# Altium integrated library Lattice ECP FPGA.IntLib: 182 symbols (part 1 of 2)
Pins are listed as number, name and electrical type; pins without a type are passive.

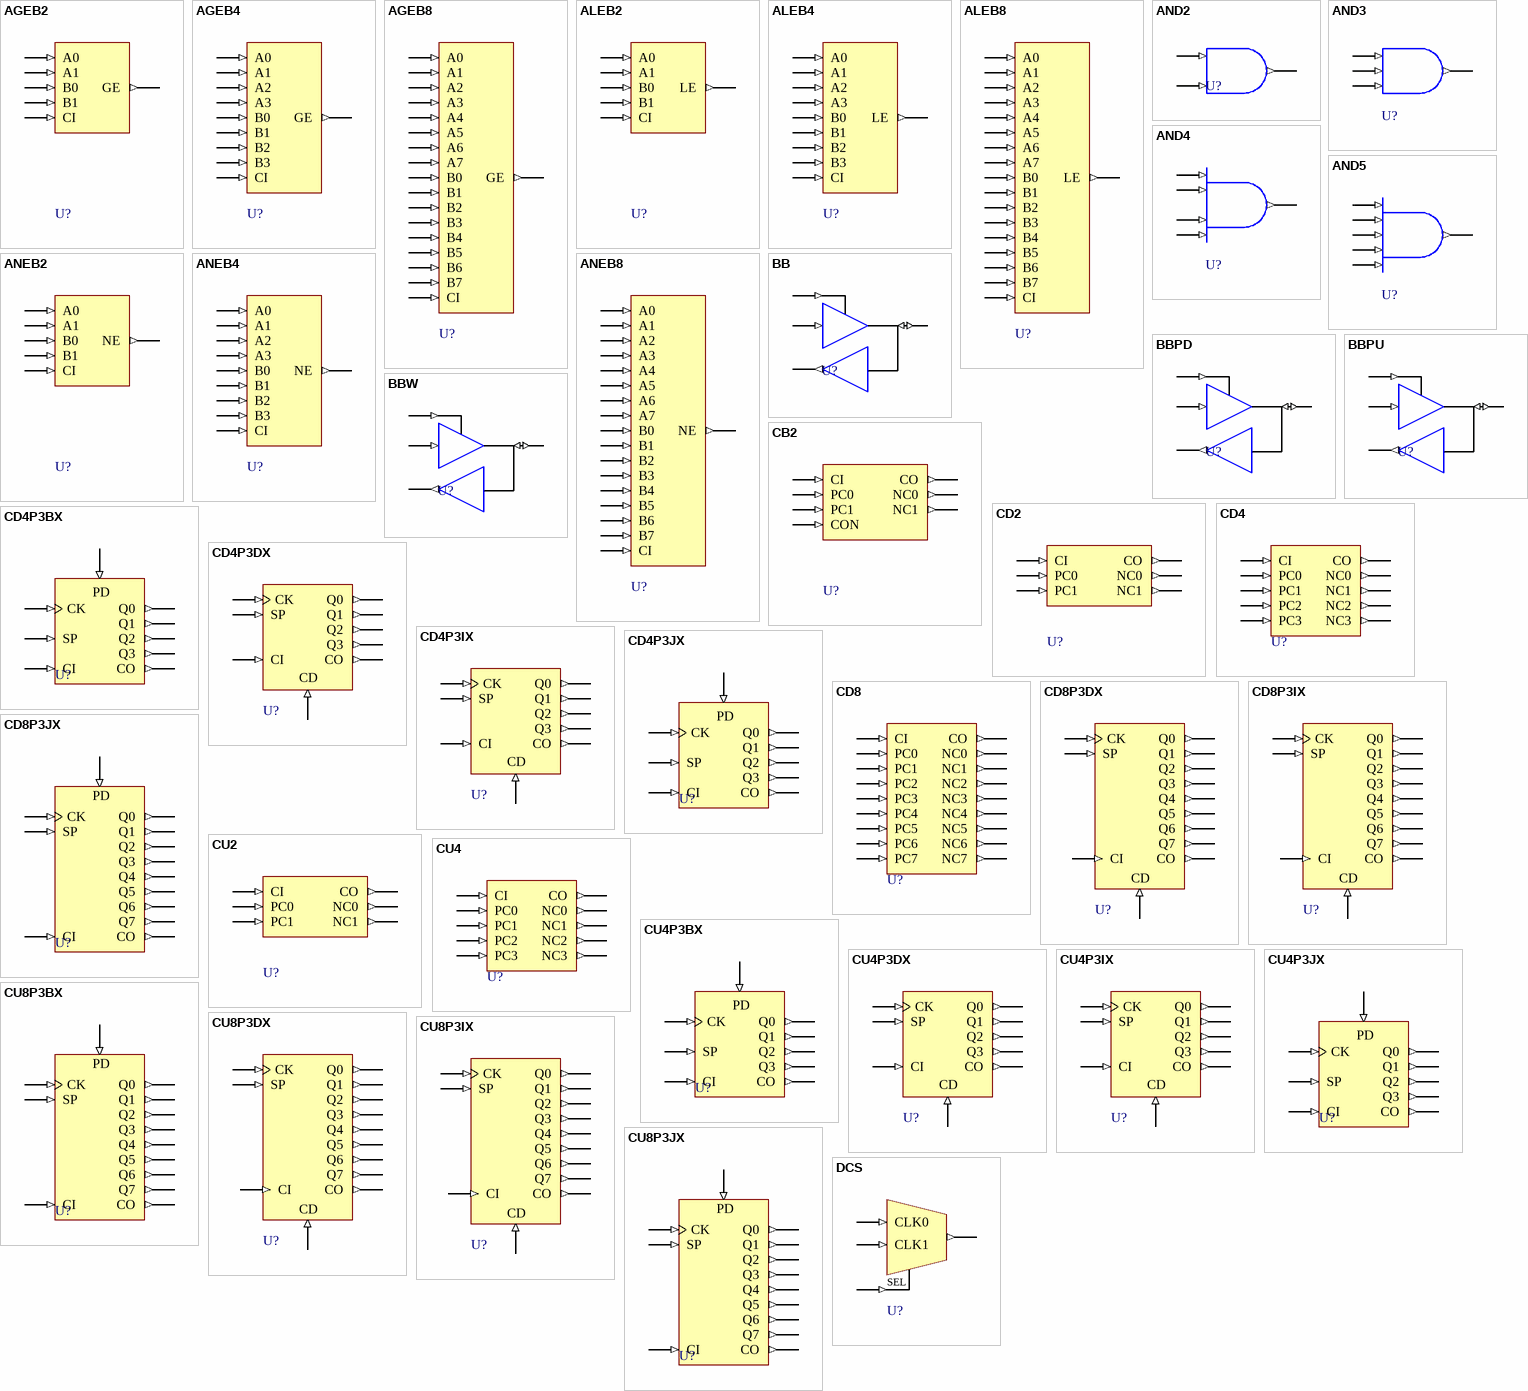
[diagram p0: symbols AGEB2 to DCS]

## AGEB2
designator U?
"A" Greater Than Or Equal To "B" (2 Bit); FPGAVendor: Lattice; Published: 15-Jun-2005; Publisher: Altium Limited; HelpURL: http://www.latticesemi.com/lit/docs/manuals/library.pdf
pins: A0 (in), A1 (in), B0 (in), B1 (in), CI (in), GE (out)

## AGEB4
designator U?
"A" Greater Than Or Equal To "B" (4 Bit); FPGAVendor: Lattice; Published: 15-Jun-2005; Publisher: Altium Limited; HelpURL: http://www.latticesemi.com/lit/docs/manuals/library.pdf
pins: A0 (in), A1 (in), A2 (in), A3 (in), B0 (in), B1 (in), B2 (in), B3 (in), CI (in), GE (out)

## AGEB8
designator U?
"A" Greater Than Or Equal To "B" (8 Bit); FPGAVendor: Lattice; Published: 15-Jun-2005; Publisher: Altium Limited; HelpURL: http://www.latticesemi.com/lit/docs/manuals/library.pdf
pins: A0 (in), A1 (in), A2 (in), A3 (in), A4 (in), A5 (in), A6 (in), A7 (in), B0 (in), B1 (in), B2 (in), B3 (in), B4 (in), B5 (in), B6 (in), B7 (in), CI (in), GE (out)

## ALEB2
designator U?
"A” Less Than Or Equal To "B” (2 bit); FPGAVendor: Lattice; Published: 15-Jun-2005; Publisher: Altium Limited; HelpURL: http://www.latticesemi.com/lit/docs/manuals/library.pdf
pins: A0 (in), A1 (in), B0 (in), B1 (in), CI (in), LE (out)

## ALEB4
designator U?
"A” Less Than Or Equal To "B” (4 bit); FPGAVendor: Lattice; Published: 15-Jun-2005; Publisher: Altium Limited; HelpURL: http://www.latticesemi.com/lit/docs/manuals/library.pdf
pins: A0 (in), A1 (in), A2 (in), A3 (in), B0 (in), B1 (in), B2 (in), B3 (in), CI (in), LE (out)

## ALEB8
designator U?
"A” Less Than Or Equal To "B” (8 bit); FPGAVendor: Lattice; Published: 15-Jun-2005; Publisher: Altium Limited; HelpURL: http://www.latticesemi.com/lit/docs/manuals/library.pdf
pins: A0 (in), A1 (in), A2 (in), A3 (in), A4 (in), A5 (in), A6 (in), A7 (in), B0 (in), B1 (in), B2 (in), B3 (in), B4 (in), B5 (in), B6 (in), B7 (in), CI (in), LE (out)

## AND2
designator U?
2 Input AND Gate; FPGAVendor: Lattice; Published: 15-Jun-2005; Publisher: Altium Limited; HelpURL: http://www.latticesemi.com/lit/docs/manuals/library.pdf
pins: A (in), B (in), Z (out)

## AND3
designator U?
3 Input AND Gate; FPGAVendor: Lattice; Published: 15-Jun-2005; Publisher: Altium Limited; HelpURL: http://www.latticesemi.com/lit/docs/manuals/library.pdf
pins: A (in), B (in), C (in), Z (out)

## AND4
designator U?
4 Input AND Gate; FPGAVendor: Lattice; Published: 15-Jun-2005; Publisher: Altium Limited; HelpURL: http://www.latticesemi.com/lit/docs/manuals/library.pdf
pins: A (in), B (in), C (in), D (in), Z (out)

## AND5
designator U?
5 Input AND Gate; FPGAVendor: Lattice; Published: 15-Jun-2005; Publisher: Altium Limited; HelpURL: http://www.latticesemi.com/lit/docs/manuals/library.pdf
pins: A (in), B (in), C (in), D (in), E (in), Z (out)

## ANEB2
designator U?
"A” Not Equal To "B” (2 bit); FPGAVendor: Lattice; Published: 15-Jun-2005; Publisher: Altium Limited; HelpURL: http://www.latticesemi.com/lit/docs/manuals/library.pdf
pins: A0 (in), A1 (in), B0 (in), B1 (in), CI (in), NE (out)

## ANEB4
designator U?
"A” Not Equal To "B” (4 bit); FPGAVendor: Lattice; Published: 15-Jun-2005; Publisher: Altium Limited; HelpURL: http://www.latticesemi.com/lit/docs/manuals/library.pdf
pins: A0 (in), A1 (in), A2 (in), A3 (in), B0 (in), B1 (in), B2 (in), B3 (in), CI (in), NE (out)

## ANEB8
designator U?
"A” Not Equal To "B” (8 bit); FPGAVendor: Lattice; Published: 15-Jun-2005; Publisher: Altium Limited; HelpURL: http://www.latticesemi.com/lit/docs/manuals/library.pdf
pins: A0 (in), A1 (in), A2 (in), A3 (in), A4 (in), A5 (in), A6 (in), A7 (in), B0 (in), B1 (in), B2 (in), B3 (in), B4 (in), B5 (in), B6 (in), B7 (in), CI (in), NE (out)

## BB
designator U?
CMOS Input 6mA Sink 3mA Source Sinklim Output Buffer with Tristate – BiDirectional; FPGAVendor: Lattice; Published: 15-Jun-2005; Publisher: Altium Limited; HelpURL: http://www.latticesemi.com/lit/docs/manuals/library.pdf
pins: B (io), I (in), O (out), T (in)

## BBPD
designator U?
CMOS Input 6mA Sink 3mA Source Sinklim Output Buffer with Tristate and Pull-down – BiDirectional; FPGAVendor: Lattice; Published: 15-Jun-2005; Publisher: Altium Limited; HelpURL: http://www.latticesemi.com/lit/docs/manuals/library.pdf
pins: B (io), I (in), O (out), T (in)

## BBPU
designator U?
CMOS Input 6mA Sink 3mA Source Sinklim Output Buffer with Tristate and Pull-up – BiDirectional; FPGAVendor: Lattice; Published: 15-Jun-2005; Publisher: Altium Limited; HelpURL: http://www.latticesemi.com/lit/docs/manuals/library.pdf
pins: B (io), I (in), O (out), T (in)

## BBW
designator U?
CMOS Input 6mA Sink 3mA Source Sinklim Output Buffer with Tristate – BiDirectional in keepermode; FPGAVendor: Lattice; Published: 15-Jun-2005; Publisher: Altium Limited; HelpURL: http://www.latticesemi.com/lit/docs/manuals/library.pdf
pins: B (io), I (in), O (out), T (in)

## CB2
designator U?
LatticeXP based counter; Published: 15-Jun-2005; Publisher: Altium Limited; FPGAVendor: Lattice; HelpURL: http://www.latticesemi.com/lit/docs/manuals/library.pdf
pins: CI (in), CO (out), CON (in), NC0 (out), NC1 (out), PC0 (in), PC1 (in)

## CD2
designator U?
Combinational Logic for 2 Bit Down Counter using Look-Up Table; FPGAVendor: Lattice; Published: 15-Jun-2005; Publisher: Altium Limited; HelpURL: http://www.latticesemi.com/lit/docs/manuals/library.pdf
pins: CI (in), CO (out), NC0 (out), NC1 (out), PC0 (in), PC1 (in)

## CD4
designator U?
Combinational Logic for 4 Bit Down Counter using Look-Up Table; FPGAVendor: Lattice; Published: 15-Jun-2005; Publisher: Altium Limited; HelpURL: http://www.latticesemi.com/lit/docs/manuals/library.pdf
pins: CI (in), CO (out), NC0 (out), NC1 (out), NC2 (out), NC3 (out), PC0 (in), PC1 (in), PC2 (in), PC3 (in)

## CD4P3BX
designator U?
4 Bit Positive Edge Triggered Fast Down Counter with Positive Clock Enable and Positive Asynchronous Preset; FPGAVendor: Lattice; Published: 15-Jun-2005; Publisher: Altium Limited; HelpURL: http://www.latticesemi.com/lit/docs/manuals/library.pdf
pins: CI (in), CK (in), CO (out), PD (in), Q0 (out), Q1 (out), Q2 (out), Q3 (out), SP (in)

## CD4P3DX
designator U?
4 Bit Positive Edge Triggered Fast Down Counter with Positive Clock Enable and Positive Asynchronous Clear; FPGAVendor: Lattice; Published: 15-Jun-2005; Publisher: Altium Limited; HelpURL: http://www.latticesemi.com/lit/docs/manuals/library.pdf
pins: CD (in), CI (in), CK (in), CO (out), Q0 (out), Q1 (out), Q2 (out), Q3 (out), SP (in)

## CD4P3IX
designator U?
4 Bit Positive Edge Triggered Fast Down Counter with Positive Clock Enable and Positive Synchronous Clear; FPGAVendor: Lattice; Published: 15-Jun-2005; Publisher: Altium Limited; HelpURL: http://www.latticesemi.com/lit/docs/manuals/library.pdf
pins: CD (in), CI (in), CK (in), CO (out), Q0 (out), Q1 (out), Q2 (out), Q3 (out), SP (in)

## CD4P3JX
designator U?
4 Bit Positive Edge Triggered Fast Down Counter with Positive Clock Enable and Positive Synchronous Preset; FPGAVendor: Lattice; Published: 15-Jun-2005; Publisher: Altium Limited; HelpURL: http://www.latticesemi.com/lit/docs/manuals/library.pdf
pins: CI (in), CK (in), CO (out), PD (in), Q0 (out), Q1 (out), Q2 (out), Q3 (out), SP (in)

## CD8
designator U?
8 Bit Positive Edge Triggered Fast Down Counter with Positive Clock Enable and Positive Asynchronous Preset; FPGAVendor: Lattice; Published: 15-Jun-2005; Publisher: Altium Limited; HelpURL: http://www.latticesemi.com/lit/docs/manuals/library.pdf
pins: CI (in), CO (out), NC0 (out), NC1 (out), NC2 (out), NC3 (out), NC4 (out), NC5 (out), NC6 (out), NC7 (out), PC0 (in), PC1 (in), PC2 (in), PC3 (in), PC4 (in), PC5 (in), PC6 (in), PC7 (in)

## CD8P3DX
designator U?
8 Bit Positive Edge Triggered Fast Down Counter with Positive Clock Enable and Positive Asynchronous Clear; FPGAVendor: Lattice; Published: 15-Jun-2005; Publisher: Altium Limited; HelpURL: http://www.latticesemi.com/lit/docs/manuals/library.pdf
pins: CD (in), CI (in), CK (in), CO (out), Q0 (out), Q1 (out), Q2 (out), Q3 (out), Q4 (out), Q5 (out), Q6 (out), Q7 (out), SP (in)

## CD8P3IX
designator U?
8 Bit Positive Edge Triggered Fast Down Counter with Positive Clock Enable and Positive Synchronous Clear; FPGAVendor: Lattice; Published: 15-Jun-2005; Publisher: Altium Limited; HelpURL: http://www.latticesemi.com/lit/docs/manuals/library.pdf
pins: CD (in), CI (in), CK (in), CO (out), Q0 (out), Q1 (out), Q2 (out), Q3 (out), Q4 (out), Q5 (out), Q6 (out), Q7 (out), SP (in)

## CD8P3JX
designator U?
8 Bit Positive Edge Triggered Fast Down Counter with Positive Clock Enable and Positive Synchronous Preset; FPGAVendor: Lattice; Published: 15-Jun-2005; Publisher: Altium Limited; HelpURL: http://www.latticesemi.com/lit/docs/manuals/library.pdf
pins: CI (in), CK (in), CO (out), PD (in), Q0 (out), Q1 (out), Q2 (out), Q3 (out), Q4 (out), Q5 (out), Q6 (out), Q7 (out), SP (in)

## CU2
designator U?
Combinational Logic for 2 Bit Up Counter using Look-Up Table; FPGAVendor: Lattice; Published: 15-Jun-2005; Publisher: Altium Limited; HelpURL: http://www.latticesemi.com/lit/docs/manuals/library.pdf
pins: CI (in), CO (out), NC0 (out), NC1 (out), PC0 (in), PC1 (in)

## CU4
designator U?
Combinational Logic for 4 Bit Up Counter using Look-Up Table; FPGAVendor: Lattice; Published: 15-Jun-2005; Publisher: Altium Limited; HelpURL: http://www.latticesemi.com/lit/docs/manuals/library.pdf
pins: CI (in), CO (out), NC0 (out), NC1 (out), NC2 (out), NC3 (out), PC0 (in), PC1 (in), PC2 (in), PC3 (in)

## CU4P3BX
designator U?
4 Bit Positive Edge Triggered Fast Up Counter with Positive Clock Enable and Positive Asynchronous Preset; FPGAVendor: Lattice; Published: 15-Jun-2005; Publisher: Altium Limited; HelpURL: http://www.latticesemi.com/lit/docs/manuals/library.pdf
pins: CI (in), CK (in), CO (out), PD (in), Q0 (out), Q1 (out), Q2 (out), Q3 (out), SP (in)

## CU4P3DX
designator U?
4 Bit Positive Edge Triggered Fast Up Counter with Positive Clock Enable and Positive Asynchronous Clear; FPGAVendor: Lattice; Published: 15-Jun-2005; Publisher: Altium Limited; HelpURL: http://www.latticesemi.com/lit/docs/manuals/library.pdf
pins: CD (in), CI (in), CK (in), CO (out), Q0 (out), Q1 (out), Q2 (out), Q3 (out), SP (in)

## CU4P3IX
designator U?
4 Bit Positive Edge Triggered Fast Up Counter with Positive Clock Enable and Positive Synchronous Clear; FPGAVendor: Lattice; Published: 15-Jun-2005; Publisher: Altium Limited; HelpURL: http://www.latticesemi.com/lit/docs/manuals/library.pdf
pins: CD (in), CI (in), CK (in), CO (out), Q0 (out), Q1 (out), Q2 (out), Q3 (out), SP (in)

## CU4P3JX
designator U?
4 Bit Positive Edge Triggered Fast Up Counter with Positive Clock Enable and Positive Synchronous Preset; FPGAVendor: Lattice; Published: 15-Jun-2005; Publisher: Altium Limited; HelpURL: http://www.latticesemi.com/lit/docs/manuals/library.pdf
pins: CI (in), CK (in), CO (out), PD (in), Q0 (out), Q1 (out), Q2 (out), Q3 (out), SP (in)

## CU8P3BX
designator U?
8 Bit Positive Edge Triggered Fast Up Counter with Positive Clock Enable and Positive Asynchronous Preset; FPGAVendor: Lattice; Published: 15-Jun-2005; Publisher: Altium Limited; HelpURL: http://www.latticesemi.com/lit/docs/manuals/library.pdf
pins: CI (in), CK (in), CO (out), PD (in), Q0 (out), Q1 (out), Q2 (out), Q3 (out), Q4 (out), Q5 (out), Q6 (out), Q7 (out), SP (in)

## CU8P3DX
designator U?
8 Bit Positive Edge Triggered Fast Up Counter with Positive Clock Enable and Positive Asynchronous Clear; FPGAVendor: Lattice; Published: 15-Jun-2005; Publisher: Altium Limited; HelpURL: http://www.latticesemi.com/lit/docs/manuals/library.pdf
pins: CD (in), CI (in), CK (in), CO (out), Q0 (out), Q1 (out), Q2 (out), Q3 (out), Q4 (out), Q5 (out), Q6 (out), Q7 (out), SP (in)

## CU8P3IX
designator U?
8 Bit Positive Edge Triggered Fast Up Counter with Positive Clock Enable and Positive Synchronous Clear; FPGAVendor: Lattice; Published: 15-Jun-2005; Publisher: Altium Limited; HelpURL: http://www.latticesemi.com/lit/docs/manuals/library.pdf
pins: CD (in), CI (in), CK (in), CO (out), Q0 (out), Q1 (out), Q2 (out), Q3 (out), Q4 (out), Q5 (out), Q6 (out), Q7 (out), SP (in)

## CU8P3JX
designator U?
8 Bit Positive Edge Triggered Fast Up Counter with Positive Clock Enable and Positive Synchronous Preset; FPGAVendor: Lattice; Published: 15-Jun-2005; Publisher: Altium Limited; HelpURL: http://www.latticesemi.com/lit/docs/manuals/library.pdf
pins: CI (in), CK (in), CO (out), PD (in), Q0 (out), Q1 (out), Q2 (out), Q3 (out), Q4 (out), Q5 (out), Q6 (out), Q7 (out), SP (in)

## DCS
designator U?
Dynamic Clock Selection Multiplexer; FPGAVendor: Lattice; Published: 15-Jun-2005; Publisher: Altium Limited; HelpURL: http://www.latticesemi.com/lit/docs/manuals/library.pdf
pins: CLK0 (in), CLK1 (in), DCSOUT (out), SEL (in)

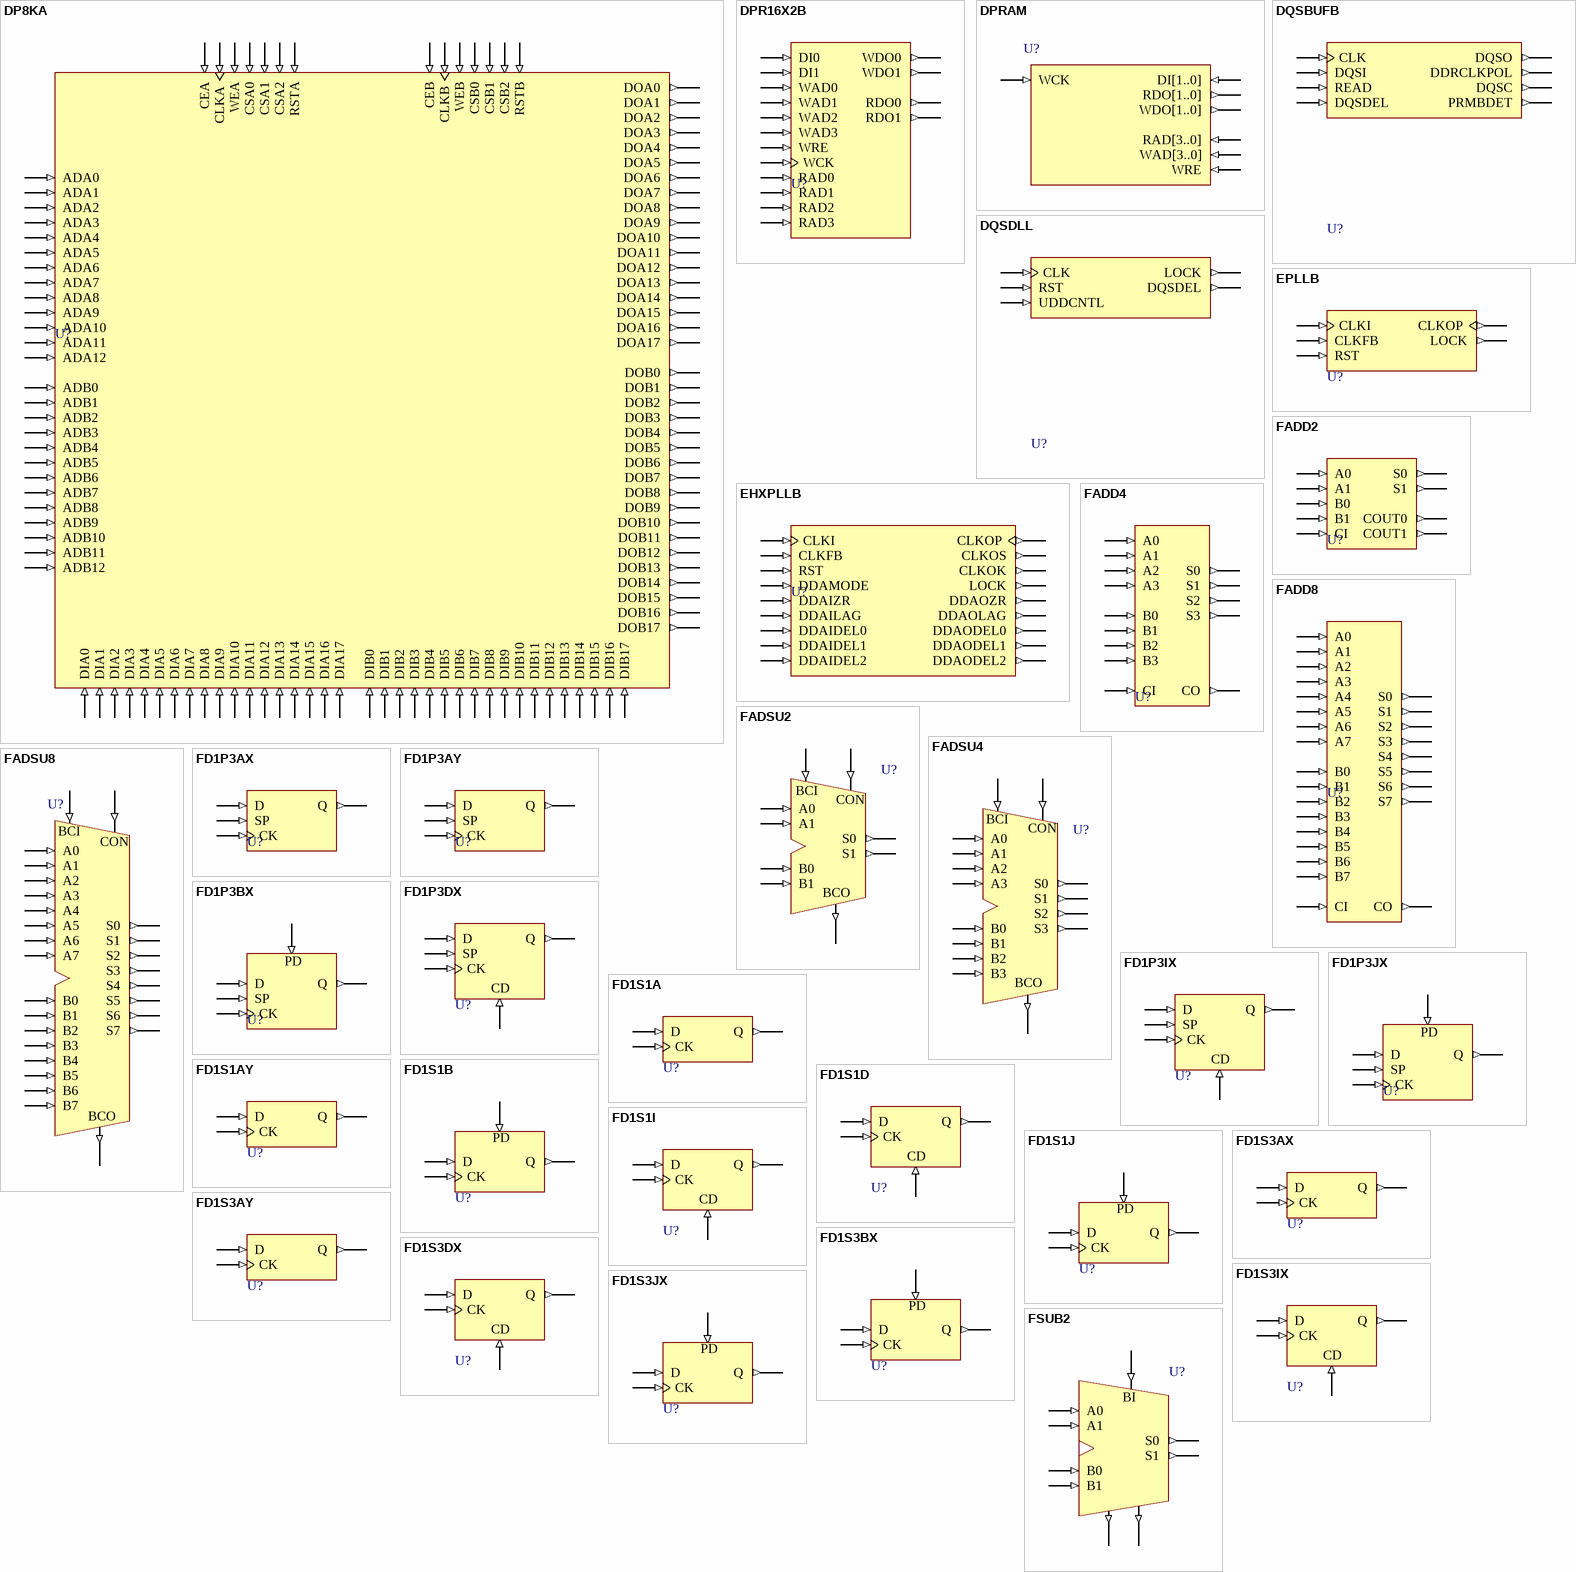
[diagram p1: symbols DP8KA to FSUB2]

## DP8KA
designator U?
8K Dual Port Block RAM; FPGAVendor: Lattice; Published: 15-Jun-2005; Publisher: Altium Limited; HelpURL: http://www.latticesemi.com/lit/docs/manuals/library.pdf
pins: ADA0 (in), ADA1 (in), ADA2 (in), ADA3 (in), ADA4 (in), ADA5 (in), ADA6 (in), ADA7 (in), ADA8 (in), ADA9 (in), ADA10 (in), ADA11 (in), ADA12 (in), ADB0 (in), ADB1 (in), ADB2 (in), ADB3 (in), ADB4 (in), ADB5 (in), ADB6 (in), ADB7 (in), ADB8 (in), ADB9 (in), ADB10 (in), ADB11 (in), ADB12 (in), CEA (in), CEB (in), CLKA (in), CLKB (in), CSA0 (in), CSA1 (in), CSA2 (in), CSB0 (in), CSB1 (in), CSB2 (in), DIA0 (in), DIA1 (in), DIA2 (in), DIA3 (in), DIA4 (in), DIA5 (in), DIA6 (in), DIA7 (in), DIA8 (in), DIA9 (in), DIA10 (in), DIA11 (in), DIA12 (in), DIA13 (in), DIA14 (in), DIA15 (in), DIA16 (in), DIA17 (in), DIB0 (in), DIB1 (in), DIB2 (in), DIB3 (in), DIB4 (in), DIB5 (in), DIB6 (in), DIB7 (in), DIB8 (in), DIB9 (in), DIB10 (in), DIB11 (in), DIB12 (in), DIB13 (in), DIB14 (in), DIB15 (in), DIB16 (in), DIB17 (in), DOA0 (out), DOA1 (out), DOA2 (out), DOA3 (out), DOA4 (out), DOA5 (out), DOA6 (out), DOA7 (out), DOA8 (out), DOA9 (out), DOA10 (out), DOA11 (out), DOA12 (out), DOA13 (out), DOA14 (out), DOA15 (out), DOA16 (out), DOA17 (out), DOB0 (out), DOB1 (out), DOB2 (out), DOB3 (out), DOB4 (out), DOB5 (out), DOB6 (out), DOB7 (out), DOB8 (out), DOB9 (out), DOB10 (out), DOB11 (out), DOB12 (out), DOB13 (out), DOB14 (out), DOB15 (out), DOB16 (out), DOB17 (out), RSTA (in), RSTB (in), WEA (in), WEB (in)

## DPR16X2B
designator U?
16 Word by 2 Dual Port RAM (within PFU); FPGAVendor: Lattice; Published: 15-Jun-2005; Publisher: Altium Limited; HelpURL: http://www.latticesemi.com/lit/docs/manuals/library.pdf
pins: DI0 (in), DI1 (in), RAD0 (in), RAD1 (in), RAD2 (in), RAD3 (in), RDO0 (out), RDO1 (out), WAD0 (in), WAD1 (in), WAD2 (in), WAD3 (in), WCK (in), WDO0 (out), WDO1 (out), WRE (in)

## DPRAM
designator U?
Distributed Dual Port RAM; FPGAVendor: Lattice; Published: 10-Aug-2005; Publisher: Altium Limited; HelpURL: http://www.latticesemi.com/lit/docs/handbooks/ecp_ec_handbook.pdf
pins: DI[1..0] (in), RAD[3..0] (in), RDO[1..0] (out), WAD[3..0] (in), WCK (in), WDO[1..0] (out), WRE (in)

## DQSBUFB
designator U?
DDR DQS Buffer used as DDR memory DQS generator; FPGAVendor: Lattice; Published: 15-Jun-2005; Publisher: Altium Limited; HelpURL: http://www.latticesemi.com/lit/docs/manuals/library.pdf
pins: CLK (in), DDRCLKPOL (out), DQSC (out), DQSDEL (in), DQSI (in), DQSO (out), PRMBDET (out), READ (in)

## DQSDLL
designator U?
DLL used as DDR memory DQS DLL; FPGAVendor: Lattice; Published: 15-Jun-2005; Publisher: Altium Limited; HelpURL: http://www.latticesemi.com/lit/docs/manuals/library.pdf
pins: CLK (in), DQSDEL (out), LOCK (out), RST (in), UDDCNTL (in)

## EHXPLLB
designator U?
Enhanced High Performance with Dynamic Input Delay Control PLL; FPGAVendor: Lattice; Published: 15-Jun-2005; Publisher: Altium Limited; HelpURL: http://www.latticesemi.com/lit/docs/manuals/library.pdf
pins: CLKFB (in), CLKI (in), CLKOK (out), CLKOP (out), CLKOS (out), DDAIDEL0 (in), DDAIDEL1 (in), DDAIDEL2 (in), DDAILAG (in), DDAIZR (in), DDAMODE (in), DDAODEL0 (out), DDAODEL1 (out), DDAODEL2 (out), DDAOLAG (out), DDAOZR (out), LOCK (out), RST (in)

## EPLLB
designator U?
Enhanced PLL; FPGAVendor: Lattice; Published: 15-Jun-2005; Publisher: Altium Limited; HelpURL: http://www.latticesemi.com/lit/docs/manuals/library.pdf
pins: CLKFB (in), CLKI (in), CLKOP (out), LOCK (out), RST (in)

## FADD2
designator U?
2 Bit Fast Adder; FPGAVendor: Lattice; Published: 15-Jun-2005; Publisher: Altium Limited; HelpURL: http://www.latticesemi.com/lit/docs/manuals/library.pdf
pins: A0 (in), A1 (in), B0 (in), B1 (in), CI (in), COUT0 (out), COUT1 (out), S0 (out), S1 (out)

## FADD4
designator U?
4 Bit Fast Adder; FPGAVendor: Lattice; Published: 15-Jun-2005; Publisher: Altium Limited; HelpURL: http://www.latticesemi.com/lit/docs/manuals/library.pdf
pins: A0 (in), A1 (in), A2 (in), A3 (in), B0 (in), B1 (in), B2 (in), B3 (in), CI (in), CO (out), S0 (out), S1 (out), S2 (out), S3 (out)

## FADD8
designator U?
8 Bit Fast Adder; FPGAVendor: Lattice; Published: 15-Jun-2005; Publisher: Altium Limited; HelpURL: http://www.latticesemi.com/lit/docs/manuals/library.pdf
pins: A0 (in), A1 (in), A2 (in), A3 (in), A4 (in), A5 (in), A6 (in), A7 (in), B0 (in), B1 (in), B2 (in), B3 (in), B4 (in), B5 (in), B6 (in), B7 (in), CI (in), CO (out), S0 (out), S1 (out), S2 (out), S3 (out), S4 (out), S5 (out), S6 (out), S7 (out)

## FADSU2
designator U?
2 Bit Fast Adder/Subtracter (two’s complement); FPGAVendor: Lattice; Published: 15-Jun-2005; Publisher: Altium Limited; HelpURL: http://www.latticesemi.com/lit/docs/manuals/library.pdf
pins: A0 (in), A1 (in), B0 (in), B1 (in), BCI (in), BCO (out), CON (in), S0 (out), S1 (out)

## FADSU4
designator U?
4 Bit Fast Adder/Subtracter (two’s complement); FPGAVendor: Lattice; Published: 15-Jun-2005; Publisher: Altium Limited; HelpURL: http://www.latticesemi.com/lit/docs/manuals/library.pdf
pins: A0 (in), A1 (in), A2 (in), A3 (in), B0 (in), B1 (in), B2 (in), B3 (in), BCI (in), BCO (out), CON (in), S0 (out), S1 (out), S2 (out), S3 (out)

## FADSU8
designator U?
8 Bit Fast Adder/Subtracter (two’s complement); FPGAVendor: Lattice; Published: 15-Jun-2005; Publisher: Altium Limited; HelpURL: http://www.latticesemi.com/lit/docs/manuals/library.pdf
pins: A0 (in), A1 (in), A2 (in), A3 (in), A4 (in), A5 (in), A6 (in), A7 (in), B0 (in), B1 (in), B2 (in), B3 (in), B4 (in), B5 (in), B6 (in), B7 (in), BCI (in), BCO (out), CON (in), S0 (out), S1 (out), S2 (out), S3 (out), S4 (out), S5 (out), S6 (out), S7 (out)

## FD1P3AX
designator U?
Positive Edge Triggered D Flip-Flop with Positive Level Enable, GSR used for Clear; FPGAVendor: Lattice; Published: 15-Jun-2005; Publisher: Altium Limited; HelpURL: http://www.latticesemi.com/lit/docs/manuals/library.pdf
pins: CK (in), D (in), Q (out), SP (in)

## FD1P3AY
designator U?
Positive Edge Triggered D Flip-Flop with Positive Level Enable, GSR used for Preset; FPGAVendor: Lattice; Published: 15-Jun-2005; Publisher: Altium Limited; HelpURL: http://www.latticesemi.com/lit/docs/manuals/library.pdf
pins: CK (in), D (in), Q (out), SP (in)

## FD1P3BX
designator U?
Positive Edge Triggered D Flip-Flop with Positive Level Enable and Positive Level Asynchronous Preset; FPGAVendor: Lattice; Published: 15-Jun-2005; Publisher: Altium Limited; HelpURL: http://www.latticesemi.com/lit/docs/manuals/library.pdf
pins: CK (in), D (in), PD (in), Q (out), SP (in)

## FD1P3DX
designator U?
Positive Edge Triggered D Flip-Flop with Positive Level Enable and Positive Level Asynchronous Clear; FPGAVendor: Lattice; Published: 15-Jun-2005; Publisher: Altium Limited; HelpURL: http://www.latticesemi.com/lit/docs/manuals/library.pdf
pins: CD (in), CK (in), D (in), Q (out), SP (in)

## FD1P3IX
designator U?
Positive Edge Triggered D Flip-Flop with Positive Level Synchronous Clear and Positive Level Enable (Clear overrides Enable); FPGAVendor: Lattice; Published: 15-Jun-2005; Publisher: Altium Limited; HelpURL: http://www.latticesemi.com/lit/docs/manuals/library.pdf
pins: CD (in), CK (in), D (in), Q (out), SP (in)

## FD1P3JX
designator U?
Positive Edge Triggered D Flip-Flop with Positive Level Synchronous Preset and Positive Level Enable (Preset overrides Enable); FPGAVendor: Lattice; Published: 15-Jun-2005; Publisher: Altium Limited; HelpURL: http://www.latticesemi.com/lit/docs/manuals/library.pdf
pins: CK (in), D (in), PD (in), Q (out), SP (in)

## FD1S1A
designator U?
Positive Level Data Latch with GSR Used for Clear; FPGAVendor: Lattice; Published: 15-Jun-2005; Publisher: Altium Limited; HelpURL: http://www.latticesemi.com/lit/docs/manuals/library.pdf
pins: CK (in), D (in), Q (out)

## FD1S1AY
designator U?
Positive Level Data Latch with GSR Used for Preset; FPGAVendor: Lattice; Published: 15-Jun-2005; Publisher: Altium Limited; HelpURL: http://www.latticesemi.com/lit/docs/manuals/library.pdf
pins: CK (in), D (in), Q (out)

## FD1S1B
designator U?
Positive Level Data Latch with Positive Level Asynchronous Preset; FPGAVendor: Lattice; Published: 15-Jun-2005; Publisher: Altium Limited; HelpURL: http://www.latticesemi.com/lit/docs/manuals/library.pdf
pins: CK (in), D (in), PD (in), Q (out)

## FD1S1D
designator U?
Positive Level Data Latch with Positive Level Asynchronous Clear; FPGAVendor: Lattice; Published: 15-Jun-2005; Publisher: Altium Limited; HelpURL: http://www.latticesemi.com/lit/docs/manuals/library.pdf
pins: CD (in), CK (in), D (in), Q (out)

## FD1S1I
designator U?
Positive Level Data Latch with Positive Level Synchronous Clear; FPGAVendor: Lattice; Published: 15-Jun-2005; Publisher: Altium Limited; HelpURL: http://www.latticesemi.com/lit/docs/manuals/library.pdf
pins: CD (in), CK (in), D (in), Q (out)

## FD1S1J
designator U?
Positive Level Data Latch with Positive Level Synchronous Preset; FPGAVendor: Lattice; Published: 15-Jun-2005; Publisher: Altium Limited; HelpURL: http://www.latticesemi.com/lit/docs/manuals/library.pdf
pins: CK (in), D (in), PD (in), Q (out)

## FD1S3AX
designator U?
Positive Edge Triggered D Flip-Flop, GSR Used for Clear; FPGAVendor: Lattice; Published: 15-Jun-2005; Publisher: Altium Limited; HelpURL: http://www.latticesemi.com/lit/docs/manuals/library.pdf
pins: CK (in), D (in), Q (out)

## FD1S3AY
designator U?
Positive Edge Triggered D Flip-Flop, GSR Used for Preset; FPGAVendor: Lattice; Published: 15-Jun-2005; Publisher: Altium Limited; HelpURL: http://www.latticesemi.com/lit/docs/manuals/library.pdf
pins: CK (in), D (in), Q (out)

## FD1S3BX
designator U?
Positive Edge Triggered D Flip-Flop with Positive Level Asynchronous Preset; FPGAVendor: Lattice; Published: 15-Jun-2005; Publisher: Altium Limited; HelpURL: http://www.latticesemi.com/lit/docs/manuals/library.pdf
pins: CK (in), D (in), PD (in), Q (out)

## FD1S3DX
designator U?
Positive Edge Triggered D Flip-Flop with Positive Level Asynchronous Clear; FPGAVendor: Lattice; Published: 15-Jun-2005; Publisher: Altium Limited; HelpURL: http://www.latticesemi.com/lit/docs/manuals/library.pdf
pins: CD (in), CK (in), D (in), Q (out)

## FD1S3IX
designator U?
Positive Edge Triggered D Flip-Flop with Positive Level Synchronous Clear; FPGAVendor: Lattice; Published: 15-Jun-2005; Publisher: Altium Limited; HelpURL: http://www.latticesemi.com/lit/docs/manuals/library.pdf
pins: CD (in), CK (in), D (in), Q (out)

## FD1S3JX
designator U?
Positive Edge Triggered D Flip-Flop with Positive Level Synchronous Preset; FPGAVendor: Lattice; Published: 15-Jun-2005; Publisher: Altium Limited; HelpURL: http://www.latticesemi.com/lit/docs/manuals/library.pdf
pins: CK (in), D (in), PD (in), Q (out)

## FSUB2
designator U?
2 Bit Fast Subtracter (two’s complement); FPGAVendor: Lattice; Published: 15-Jun-2005; Publisher: Altium Limited; HelpURL: http://www.latticesemi.com/lit/docs/manuals/library.pdf
pins: A0 (in), A1 (in), B0 (in), B1 (in), BI (in), BOUT0 (out), BOUT1 (out), S0 (out), S1 (out)

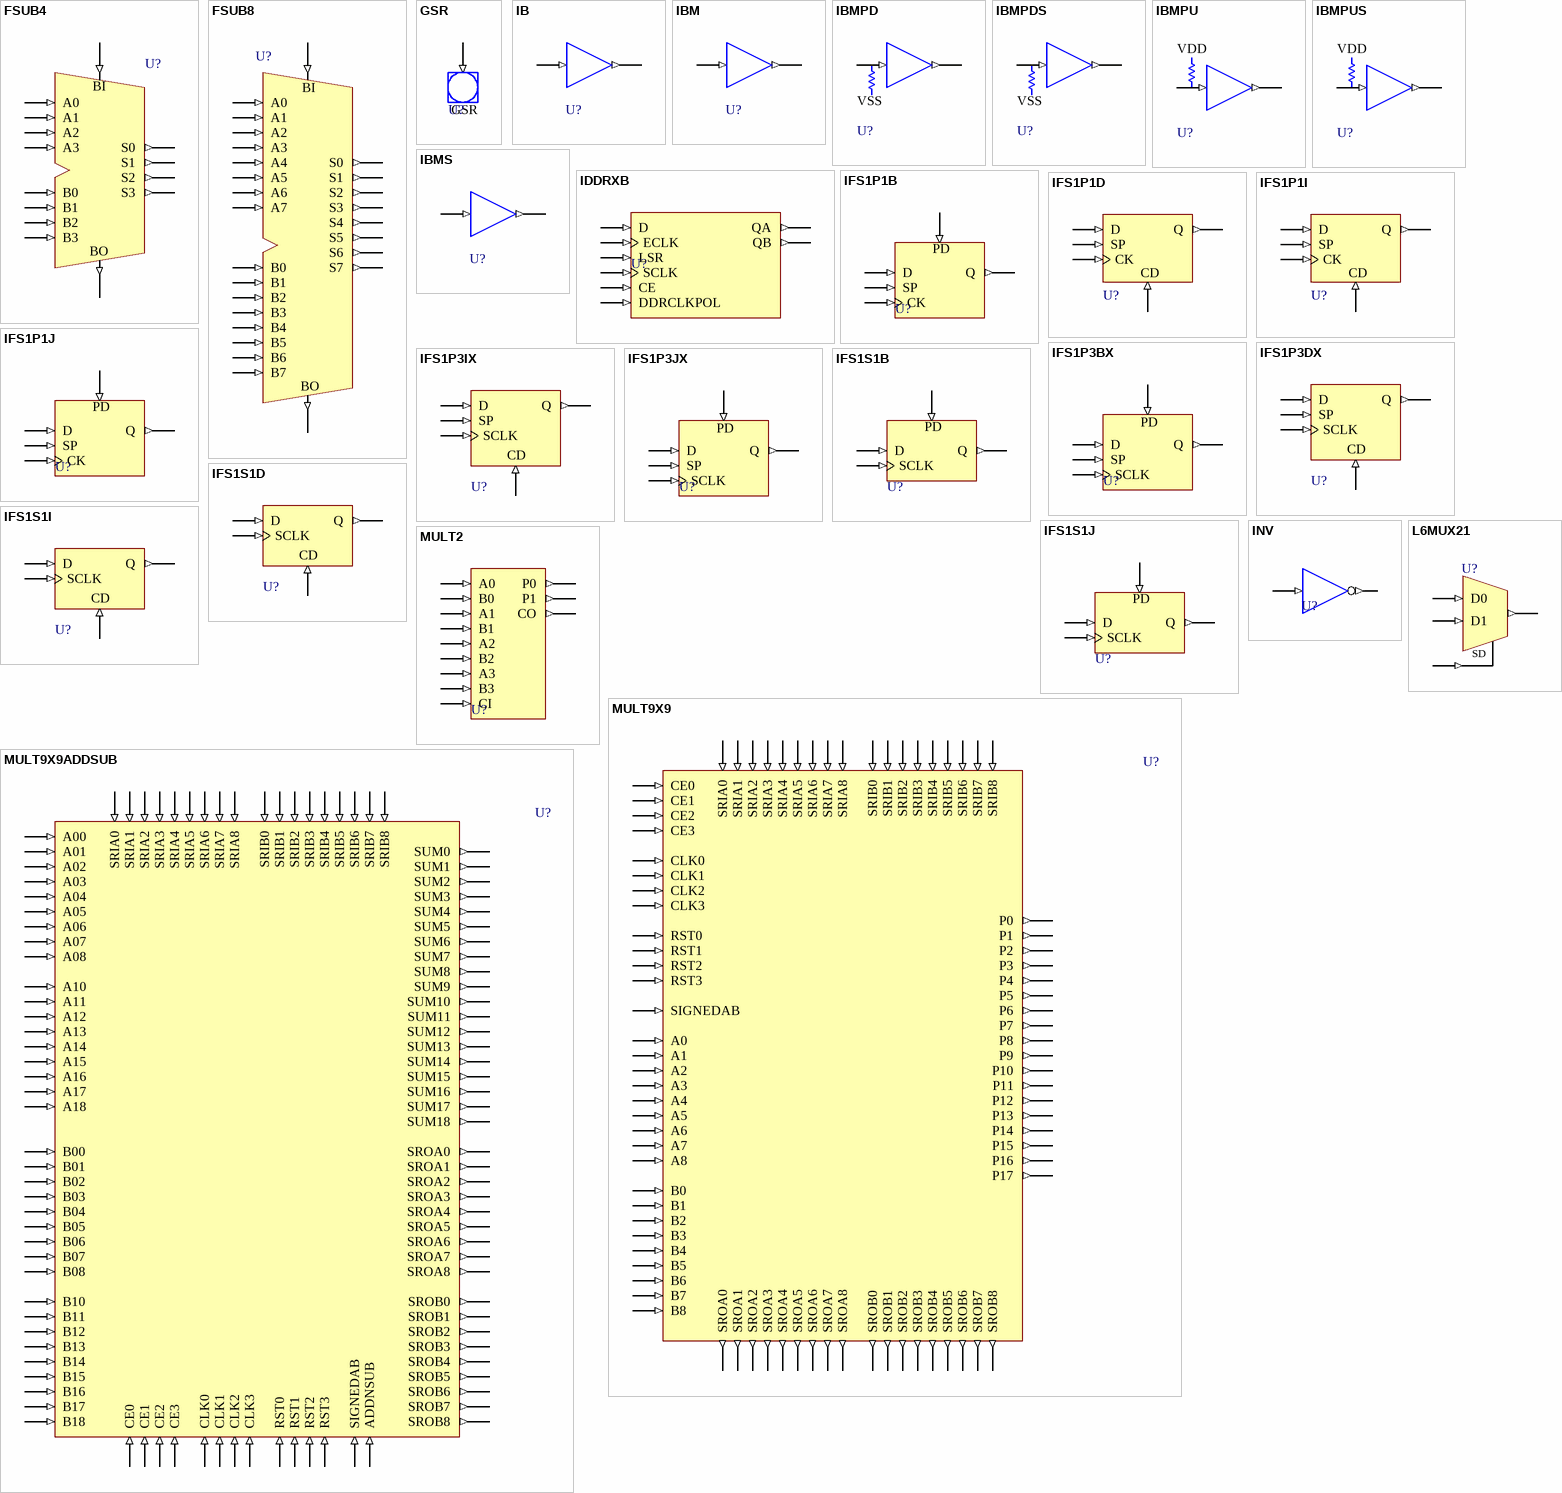
[diagram p2: symbols FSUB4 to MULT9X9ADDSUB]

## FSUB4
designator U?
4 Bit Fast Subtracter (two’s complement); FPGAVendor: Lattice; Published: 15-Jun-2005; Publisher: Altium Limited; HelpURL: http://www.latticesemi.com/lit/docs/manuals/library.pdf
pins: A0 (in), A1 (in), A2 (in), A3 (in), B0 (in), B1 (in), B2 (in), B3 (in), BI (in), BO (out), S0 (out), S1 (out), S2 (out), S3 (out)

## FSUB8
designator U?
8 Bit Fast Subtracter (two’s complement); FPGAVendor: Lattice; Published: 15-Jun-2005; Publisher: Altium Limited; HelpURL: http://www.latticesemi.com/lit/docs/manuals/library.pdf
pins: A0 (in), A1 (in), A2 (in), A3 (in), A4 (in), A5 (in), A6 (in), A7 (in), B0 (in), B1 (in), B2 (in), B3 (in), B4 (in), B5 (in), B6 (in), B7 (in), BI (in), BO (out), S0 (out), S1 (out), S2 (out), S3 (out), S4 (out), S5 (out), S6 (out), S7 (out)

## GSR
designator U?
Global Set/Reset; FPGAVendor: Lattice; Published: 15-Jun-2005; Publisher: Altium Limited; HelpURL: http://www.latticesemi.com/lit/docs/manuals/library.pdf
pins: GSR (in)

## IB
designator U?
CMOS Input Buffer; FPGAVendor: Lattice; Published: 15-Jun-2005; Publisher: Altium Limited; HelpURL: http://www.latticesemi.com/lit/docs/manuals/library.pdf
pins: I (in), O (out)

## IBM
designator U?
CMOS Input Buffer; FPGAVendor: Lattice; Published: 15-Jun-2005; Publisher: Altium Limited; HelpURL: http://www.latticesemi.com/lit/docs/manuals/library.pdf
pins: I (in), O (out)

## IBMPD
designator U?
CMOS Input Buffer with Pull-down; FPGAVendor: Lattice; Published: 15-Jun-2005; Publisher: Altium Limited; HelpURL: http://www.latticesemi.com/lit/docs/manuals/library.pdf
pins: I (in), O (out)
text: VSS

## IBMPDS
designator U?
CMOS Input Buffer with Pull-down and Delay; FPGAVendor: Lattice; Published: 15-Jun-2005; Publisher: Altium Limited; HelpURL: http://www.latticesemi.com/lit/docs/manuals/library.pdf
pins: I (in), O (out)
text: VSS

## IBMPU
designator U?
CMOS Input Buffer with Pull-up; FPGAVendor: Lattice; Published: 15-Jun-2005; Publisher: Altium Limited; HelpURL: http://www.latticesemi.com/lit/docs/manuals/library.pdf
pins: I (in), O (out)
text: VDD

## IBMPUS
designator U?
CMOS Input Buffer with Pull-up and Delay; FPGAVendor: Lattice; Published: 15-Jun-2005; Publisher: Altium Limited; HelpURL: http://www.latticesemi.com/lit/docs/manuals/library.pdf
pins: I (in), O (out)
text: VDD

## IBMS
designator U?
CMOS Input Buffer with Delay; FPGAVendor: Lattice; Published: 15-Jun-2005; Publisher: Altium Limited; HelpURL: http://www.latticesemi.com/lit/docs/manuals/library.pdf
pins: I (in), O (out)

## IDDRXB
designator U?
DDRX Input Cell; FPGAVendor: Lattice; Published: 15-Jun-2005; Publisher: Altium Limited; HelpURL: http://www.latticesemi.com/lit/docs/manuals/library.pdf
pins: CE (in), D (in), DDRCLKPOL (in), ECLK (in), LSR (in), QA (out), QB (out), SCLK (in)

## IFS1P1B
designator U?
Positive Level Latch with Positive Level Enable and Positve Level Asynchronous Preset; FPGAVendor: Lattice; Published: 15-Jun-2005; Publisher: Altium Limited; HelpURL: http://www.latticesemi.com/lit/docs/manuals/library.pdf
pins: CK (in), D (in), PD (in), Q (out), SP (in)

## IFS1P1D
designator U?
Positive Level Latch with Positive Level Enable and Positive Asynchronous Clear; FPGAVendor: Lattice; Published: 15-Jun-2005; Publisher: Altium Limited; HelpURL: http://www.latticesemi.com/lit/docs/manuals/library.pdf
pins: CD (in), CK (in), D (in), Q (out), SP (in)

## IFS1P1I
designator U?
Positive Level Latch with Positive Level Enable and Positive Asynchronous Clear; FPGAVendor: Lattice; Published: 15-Jun-2005; Publisher: Altium Limited; HelpURL: http://www.latticesemi.com/lit/docs/manuals/library.pdf
pins: CD (in), CK (in), D (in), Q (out), SP (in)

## IFS1P1J
designator U?
Positive Level Latch with Positive Level Enable and Positive Level Asynchronous Preset; FPGAVendor: Lattice; Published: 15-Jun-2005; Publisher: Altium Limited; HelpURL: http://www.latticesemi.com/lit/docs/manuals/library.pdf
pins: CK (in), D (in), PD (in), Q (out), SP (in)

## IFS1P3BX
designator U?
Positive Edge Triggered D Flip-Flop with Positive Level Enable, Positive Level Asynchronous Preset, and System Clock (used in input PIC area only); FPGAVendor: Lattice; Published: 15-Jun-2005; Publisher: Altium Limited; HelpURL: http://www.latticesemi.com/lit/docs/manuals/library.pdf
pins: D (in), PD (in), Q (out), SCLK (in), SP (in)

## IFS1P3DX
designator U?
Positive Edge Triggered D Flip-Flop with Positive Level Enable, Positive Level Asynchronous Clear, and System Clock (used in input PIC area only); FPGAVendor: Lattice; Published: 15-Jun-2005; Publisher: Altium Limited; HelpURL: http://www.latticesemi.com/lit/docs/manuals/library.pdf
pins: CD (in), D (in), Q (out), SCLK (in), SP (in)

## IFS1P3IX
designator U?
Positive Edge Triggered D Flip-Flop with Positive Level Synchronous Clear, Positive Level Enable, and System Clock (Clear overrides Enable) (used in input PIC area only); FPGAVendor: Lattice; Published: 15-Jun-2005; Publisher: Altium Limited; HelpURL: http://www.latticesemi.com/lit/docs/manuals/library.pdf
pins: CD (in), D (in), Q (out), SCLK (in), SP (in)

## IFS1P3JX
designator U?
Positive Edge Triggered D Flip-Flop with Positive Level Synchronous Preset, Positive Level Enable, and System Clock (Preset overrides Enable) (used in input PIC area only); FPGAVendor: Lattice; Published: 15-Jun-2005; Publisher: Altium Limited; HelpURL: http://www.latticesemi.com/lit/docs/manuals/library.pdf
pins: D (in), PD (in), Q (out), SCLK (in), SP (in)

## IFS1S1B
designator U?
Positive Level Data Latch with Positive Level Asynchronous Preset and System Clock (used in input PIC area only); FPGAVendor: Lattice; Published: 15-Jun-2005; Publisher: Altium Limited; HelpURL: http://www.latticesemi.com/lit/docs/manuals/library.pdf
pins: D (in), PD (in), Q (out), SCLK (in)

## IFS1S1D
designator U?
Positive Level Data Latch with Positive Level Asynchronous Clear and System Clock (used in input PIC area only); FPGAVendor: Lattice; Published: 15-Jun-2005; Publisher: Altium Limited; HelpURL: http://www.latticesemi.com/lit/docs/manuals/library.pdf
pins: CD (in), D (in), Q (out), SCLK (in)

## IFS1S1I
designator U?
Positive Level Data Latch with Positive Level Synchronous Clear and System Clock (used in input PIC area only); FPGAVendor: Lattice; Published: 15-Jun-2005; Publisher: Altium Limited; HelpURL: http://www.latticesemi.com/lit/docs/manuals/library.pdf
pins: CD (in), D (in), Q (out), SCLK (in)

## IFS1S1J
designator U?
Positive Level Data Latch with Positive Level Synchronous Preset and System Clock (used in input PIC area only); FPGAVendor: Lattice; Published: 15-Jun-2005; Publisher: Altium Limited; HelpURL: http://www.latticesemi.com/lit/docs/manuals/library.pdf
pins: D (in), PD (in), Q (out), SCLK (in)

## INV
designator U?
Inverter; FPGAVendor: Lattice; Published: 15-Jun-2005; Publisher: Altium Limited; HelpURL: http://www.latticesemi.com/lit/docs/manuals/library.pdf
pins: A (in), Z (out)

## L6MUX21
designator U?
2 to 1 Mux; FPGAVendor: Lattice; Published: 15-Jun-2005; Publisher: Altium Limited; HelpURL: http://www.latticesemi.com/lit/docs/manuals/library.pdf
pins: D0 (in), D1 (in), SD (in), Z (out)

## MULT2
designator U?
DSP Multiplier; FPGAVendor: Lattice; Published: 15-Jun-2005; Publisher: Altium Limited; HelpURL: http://www.latticesemi.com/lit/docs/manuals/library.pdf
pins: A0 (in), A1 (in), A2 (in), A3 (in), B0 (in), B1 (in), B2 (in), B3 (in), CI (in), CO (out), P0 (out), P1 (out)

## MULT9X9
designator U?
ECP 9X9 DSP Multiplier; FPGAVendor: Lattice; Published: 15-Jun-2005; Publisher: Altium Limited; HelpURL: http://www.latticesemi.com/lit/docs/manuals/library.pdf
pins: A0 (in), A1 (in), A2 (in), A3 (in), A4 (in), A5 (in), A6 (in), A7 (in), A8 (in), B0 (in), B1 (in), B2 (in), B3 (in), B4 (in), B5 (in), B6 (in), B7 (in), B8 (in), CE0 (in), CE1 (in), CE2 (in), CE3 (in), CLK0 (in), CLK1 (in), CLK2 (in), CLK3 (in), P0 (out), P1 (out), P2 (out), P3 (out), P4 (out), P5 (out), P6 (out), P7 (out), P8 (out), P9 (out), P10 (out), P11 (out), P12 (out), P13 (out), P14 (out), P15 (out), P16 (out), P17 (out), RST0 (in), RST1 (in), RST2 (in), RST3 (in), SIGNEDAB (in), SRIA0 (in), SRIA1 (in), SRIA2 (in), SRIA3 (in), SRIA4 (in), SRIA5 (in), SRIA6 (in), SRIA7 (in), SRIA8 (in), SRIB0 (in), SRIB1 (in), SRIB2 (in), SRIB3 (in), SRIB4 (in), SRIB5 (in), SRIB6 (in), SRIB7 (in), SRIB8 (in), SROA0 (out), SROA1 (out), SROA2 (out), SROA3 (out), SROA4 (out), SROA5 (out), SROA6 (out), SROA7 (out), SROA8 (out), SROB0 (out), SROB1 (out), SROB2 (out), SROB3 (out), SROB4 (out), SROB5 (out), SROB6 (out), SROB7 (out), SROB8 (out)

## MULT9X9ADDSUB
designator U?
ECP 9X9 DSP Adder/Subtractor; FPGAVendor: Lattice; Published: 15-Jun-2005; Publisher: Altium Limited; HelpURL: http://www.latticesemi.com/lit/docs/manuals/library.pdf
pins: A00 (in), A01 (in), A02 (in), A03 (in), A04 (in), A05 (in), A06 (in), A07 (in), A08 (in), A10 (in), A11 (in), A12 (in), A13 (in), A14 (in), A15 (in), A16 (in), A17 (in), A18 (in), ADDNSUB (in), B00 (in), B01 (in), B02 (in), B03 (in), B04 (in), B05 (in), B06 (in), B07 (in), B08 (in), B10 (in), B11 (in), B12 (in), B13 (in), B14 (in), B15 (in), B16 (in), B17 (in), B18 (in), CE0 (in), CE1 (in), CE2 (in), CE3 (in), CLK0 (in), CLK1 (in), CLK2 (in), CLK3 (in), RST0 (in), RST1 (in), RST2 (in), RST3 (in), SIGNEDAB (in), SRIA0 (in), SRIA1 (in), SRIA2 (in), SRIA3 (in), SRIA4 (in), SRIA5 (in), SRIA6 (in), SRIA7 (in), SRIA8 (in), SRIB0 (in), SRIB1 (in), SRIB2 (in), SRIB3 (in), SRIB4 (in), SRIB5 (in), SRIB6 (in), SRIB7 (in), SRIB8 (in), SROA0 (out), SROA1 (out), SROA2 (out), SROA3 (out), SROA4 (out), SROA5 (out), SROA6 (out), SROA7 (out), SROA8 (out), SROB0 (out), SROB1 (out), SROB2 (out), SROB3 (out), SROB4 (out), SROB5 (out), SROB6 (out), SROB7 (out), SROB8 (out), SUM0 (out), SUM1 (out), SUM2 (out), SUM3 (out), SUM4 (out), SUM5 (out), SUM6 (out), SUM7 (out), SUM8 (out), SUM9 (out), SUM10 (out), SUM11 (out), SUM12 (out), SUM13 (out), SUM14 (out), SUM15 (out), SUM16 (out), SUM17 (out), SUM18 (out)

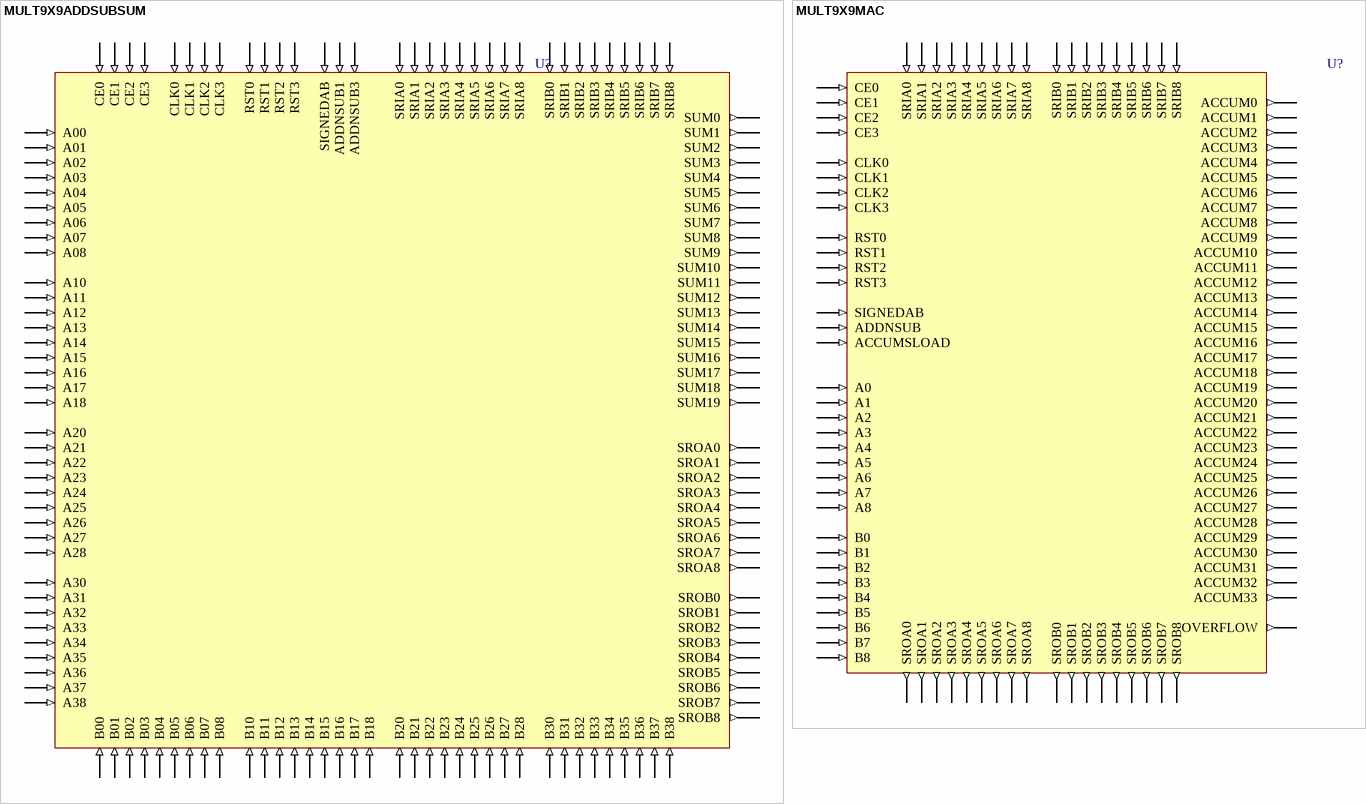
[diagram p3: symbols MULT9X9ADDSUBSUM to MULT9X9MAC]

## MULT9X9ADDSUBSUM
designator U?
ECP 9X9 DSP Adder/Subtractor/Sum; FPGAVendor: Lattice; Published: 15-Jun-2005; Publisher: Altium Limited; HelpURL: http://www.latticesemi.com/lit/docs/manuals/library.pdf
pins: A00 (in), A01 (in), A02 (in), A03 (in), A04 (in), A05 (in), A06 (in), A07 (in), A08 (in), A10 (in), A11 (in), A12 (in), A13 (in), A14 (in), A15 (in), A16 (in), A17 (in), A18 (in), A20 (in), A21 (in), A22 (in), A23 (in), A24 (in), A25 (in), A26 (in), A27 (in), A28 (in), A30 (in), A31 (in), A32 (in), A33 (in), A34 (in), A35 (in), A36 (in), A37 (in), A38 (in), ADDNSUB1 (in), ADDNSUB3 (in), B00 (in), B01 (in), B02 (in), B03 (in), B04 (in), B05 (in), B06 (in), B07 (in), B08 (in), B10 (in), B11 (in), B12 (in), B13 (in), B14 (in), B15 (in), B16 (in), B17 (in), B18 (in), B20 (in), B21 (in), B22 (in), B23 (in), B24 (in), B25 (in), B26 (in), B27 (in), B28 (in), B30 (in), B31 (in), B32 (in), B33 (in), B34 (in), B35 (in), B36 (in), B37 (in), B38 (in), CE0 (in), CE1 (in), CE2 (in), CE3 (in), CLK0 (in), CLK1 (in), CLK2 (in), CLK3 (in), RST0 (in), RST1 (in), RST2 (in), RST3 (in), SIGNEDAB (in), SRIA0 (in), SRIA1 (in), SRIA2 (in), SRIA3 (in), SRIA4 (in), SRIA5 (in), SRIA6 (in), SRIA7 (in), SRIA8 (in), SRIB0 (in), SRIB1 (in), SRIB2 (in), SRIB3 (in), SRIB4 (in), SRIB5 (in), SRIB6 (in), SRIB7 (in), SRIB8 (in), SROA0 (out), SROA1 (out), SROA2 (out), SROA3 (out), SROA4 (out), SROA5 (out), SROA6 (out), SROA7 (out), SROA8 (out), SROB0 (out), SROB1 (out), SROB2 (out), SROB3 (out), SROB4 (out), SROB5 (out), SROB6 (out), SROB7 (out), SROB8 (out), SUM0 (out), SUM1 (out), SUM2 (out), SUM3 (out), SUM4 (out), SUM5 (out), SUM6 (out), SUM7 (out), SUM8 (out), SUM9 (out), SUM10 (out), SUM11 (out), SUM12 (out), SUM13 (out), SUM14 (out), SUM15 (out), SUM16 (out), SUM17 (out), SUM18 (out), SUM19 (out)

## MULT9X9MAC
designator U?
ECP 9X9 DSP MAC; FPGAVendor: Lattice; Published: 15-Jun-2005; Publisher: Altium Limited; HelpURL: http://www.latticesemi.com/lit/docs/manuals/library.pdf
pins: A0 (in), A1 (in), A2 (in), A3 (in), A4 (in), A5 (in), A6 (in), A7 (in), A8 (in), ACCUM0 (out), ACCUM1 (out), ACCUM2 (out), ACCUM3 (out), ACCUM4 (out), ACCUM5 (out), ACCUM6 (out), ACCUM7 (out), ACCUM8 (out), ACCUM9 (out), ACCUM10 (out), ACCUM11 (out), ACCUM12 (out), ACCUM13 (out), ACCUM14 (out), ACCUM15 (out), ACCUM16 (out), ACCUM17 (out), ACCUM18 (out), ACCUM19 (out), ACCUM20 (out), ACCUM21 (out), ACCUM22 (out), ACCUM23 (out), ACCUM24 (out), ACCUM25 (out), ACCUM26 (out), ACCUM27 (out), ACCUM28 (out), ACCUM29 (out), ACCUM30 (out), ACCUM31 (out), ACCUM32 (out), ACCUM33 (out), ACCUMSLOAD (in), ADDNSUB (in), B0 (in), B1 (in), B2 (in), B3 (in), B4 (in), B5 (in), B6 (in), B7 (in), B8 (in), CE0 (in), CE1 (in), CE2 (in), CE3 (in), CLK0 (in), CLK1 (in), CLK2 (in), CLK3 (in), OVERFLOW (out), RST0 (in), RST1 (in), RST2 (in), RST3 (in), SIGNEDAB (in), SRIA0 (in), SRIA1 (in), SRIA2 (in), SRIA3 (in), SRIA4 (in), SRIA5 (in), SRIA6 (in), SRIA7 (in), SRIA8 (in), SRIB0 (in), SRIB1 (in), SRIB2 (in), SRIB3 (in), SRIB4 (in), SRIB5 (in), SRIB6 (in), SRIB7 (in), SRIB8 (in), SROA0 (out), SROA1 (out), SROA2 (out), SROA3 (out), SROA4 (out), SROA5 (out), SROA6 (out), SROA7 (out), SROA8 (out), SROB0 (out), SROB1 (out), SROB2 (out), SROB3 (out), SROB4 (out), SROB5 (out), SROB6 (out), SROB7 (out), SROB8 (out)

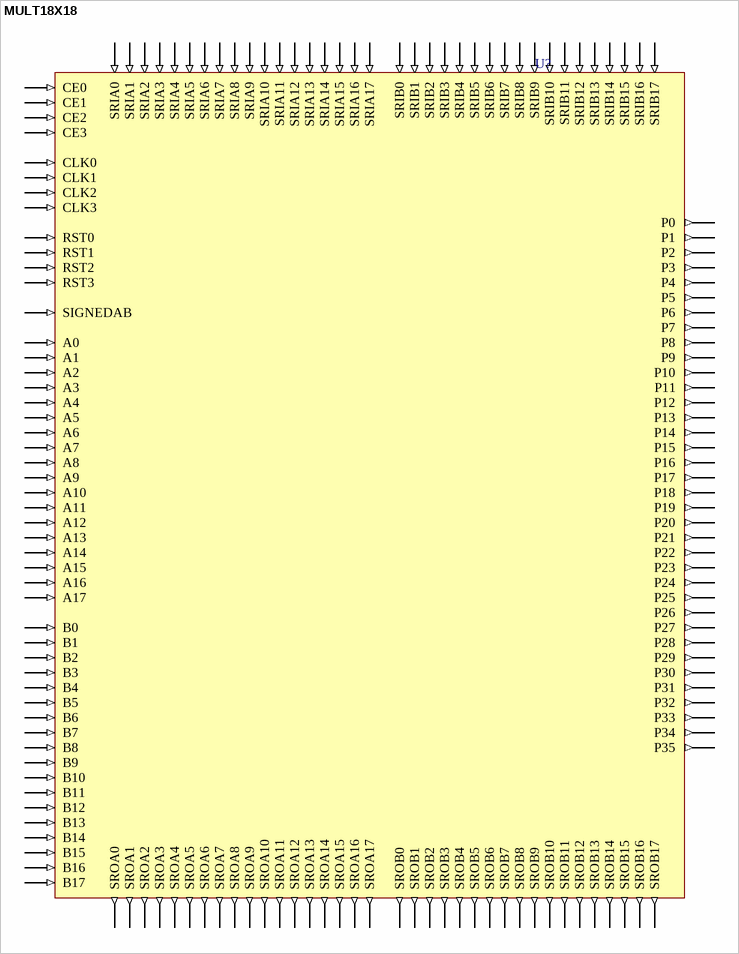
[diagram p4: symbol MULT18X18]

## MULT18X18
designator U?
ECP 18X18 DSP Multiplier; FPGAVendor: Lattice; Published: 15-Jun-2005; Publisher: Altium Limited; HelpURL: http://www.latticesemi.com/lit/docs/manuals/library.pdf
pins: A0 (in), A1 (in), A2 (in), A3 (in), A4 (in), A5 (in), A6 (in), A7 (in), A8 (in), A9 (in), A10 (in), A11 (in), A12 (in), A13 (in), A14 (in), A15 (in), A16 (in), A17 (in), B0 (in), B1 (in), B2 (in), B3 (in), B4 (in), B5 (in), B6 (in), B7 (in), B8 (in), B9 (in), B10 (in), B11 (in), B12 (in), B13 (in), B14 (in), B15 (in), B16 (in), B17 (in), CE0 (in), CE1 (in), CE2 (in), CE3 (in), CLK0 (in), CLK1 (in), CLK2 (in), CLK3 (in), P0 (out), P1 (out), P2 (out), P3 (out), P4 (out), P5 (out), P6 (out), P7 (out), P8 (out), P9 (out), P10 (out), P11 (out), P12 (out), P13 (out), P14 (out), P15 (out), P16 (out), P17 (out), P18 (out), P19 (out), P20 (out), P21 (out), P22 (out), P23 (out), P24 (out), P25 (out), P26 (out), P27 (out), P28 (out), P29 (out), P30 (out), P31 (out), P32 (out), P33 (out), P34 (out), P35 (out), RST0 (in), RST1 (in), RST2 (in), RST3 (in), SIGNEDAB (in), SRIA0 (in), SRIA1 (in), SRIA2 (in), SRIA3 (in), SRIA4 (in), SRIA5 (in), SRIA6 (in), SRIA7 (in), SRIA8 (in), SRIA9 (in), SRIA10 (in), SRIA11 (in), SRIA12 (in), SRIA13 (in), SRIA14 (in), SRIA15 (in), SRIA16 (in), SRIA17 (in), SRIB0 (in), SRIB1 (in), SRIB2 (in), SRIB3 (in), SRIB4 (in), SRIB5 (in), SRIB6 (in), SRIB7 (in), SRIB8 (in), SRIB9 (in), SRIB10 (in), SRIB11 (in), SRIB12 (in), SRIB13 (in), SRIB14 (in), SRIB15 (in), SRIB16 (in), SRIB17 (in), SROA0 (out), SROA1 (out), SROA2 (out), SROA3 (out), SROA4 (out), SROA5 (out), SROA6 (out), SROA7 (out), SROA8 (out), SROA9 (out), SROA10 (out), SROA11 (out), SROA12 (out), SROA13 (out), SROA14 (out), SROA15 (out), SROA16 (out), SROA17 (out), SROB0 (out), SROB1 (out), SROB2 (out), SROB3 (out), SROB4 (out), SROB5 (out), SROB6 (out), SROB7 (out), SROB8 (out), SROB9 (out), SROB10 (out), SROB11 (out), SROB12 (out), SROB13 (out), SROB14 (out), SROB15 (out), SROB16 (out), SROB17 (out)

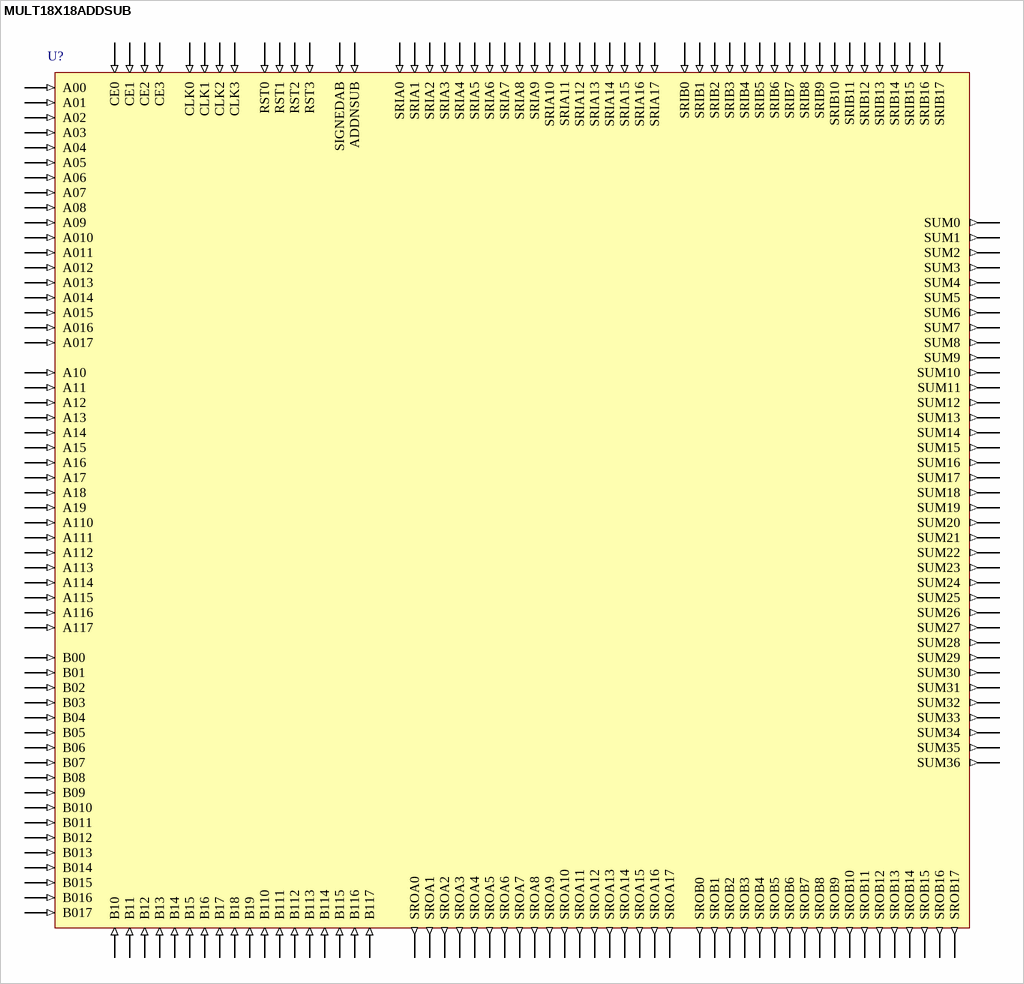
[diagram p5: symbol MULT18X18ADDSUB]

## MULT18X18ADDSUB
designator U?
ECP 18X18 DSP Adder/Subtractor; FPGAVendor: Lattice; Published: 15-Jun-2005; Publisher: Altium Limited; HelpURL: http://www.latticesemi.com/lit/docs/manuals/library.pdf
pins: A00 (in), A01 (in), A02 (in), A03 (in), A04 (in), A05 (in), A06 (in), A07 (in), A08 (in), A09 (in), A010 (in), A10 (in), A011 (in), A11 (in), A012 (in), A12 (in), A013 (in), A13 (in), A014 (in), A14 (in), A015 (in), A15 (in), A016 (in), A16 (in), A017 (in), A17 (in), A18 (in), A19 (in), A110 (in), A111 (in), A112 (in), A113 (in), A114 (in), A115 (in), A116 (in), A117 (in), ADDNSUB (in), B00 (in), B01 (in), B02 (in), B03 (in), B04 (in), B05 (in), B06 (in), B07 (in), B08 (in), B09 (in), B010 (in), B10 (in), B011 (in), B11 (in), B012 (in), B12 (in), B013 (in), B13 (in), B014 (in), B14 (in), B015 (in), B15 (in), B016 (in), B16 (in), B017 (in), B17 (in), B18 (in), B19 (in), B110 (in), B111 (in), B112 (in), B113 (in), B114 (in), B115 (in), B116 (in), B117 (in), CE0 (in), CE1 (in), CE2 (in), CE3 (in), CLK0 (in), CLK1 (in), CLK2 (in), CLK3 (in), RST0 (in), RST1 (in), RST2 (in), RST3 (in), SIGNEDAB (in), SRIA0 (in), SRIA1 (in), SRIA2 (in), SRIA3 (in), SRIA4 (in), SRIA5 (in), SRIA6 (in), SRIA7 (in), SRIA8 (in), SRIA9 (in), SRIA10 (in), SRIA11 (in), SRIA12 (in), SRIA13 (in), SRIA14 (in), SRIA15 (in), SRIA16 (in), SRIA17 (in), SRIB0 (in), SRIB1 (in), SRIB2 (in), SRIB3 (in), SRIB4 (in), SRIB5 (in), SRIB6 (in), SRIB7 (in), SRIB8 (in), SRIB9 (in), SRIB10 (in), SRIB11 (in), SRIB12 (in), SRIB13 (in), SRIB14 (in), SRIB15 (in), SRIB16 (in), SRIB17 (in), SROA0 (out), SROA1 (out), SROA2 (out), SROA3 (out), SROA4 (out), SROA5 (out), SROA6 (out), SROA7 (out), SROA8 (out), SROA9 (out), SROA10 (out), SROA11 (out), SROA12 (out), SROA13 (out), SROA14 (out), SROA15 (out), SROA16 (out), SROA17 (out), SROB0 (out), SROB1 (out), SROB2 (out), SROB3 (out), SROB4 (out), SROB5 (out), SROB6 (out), SROB7 (out), SROB8 (out), SROB9 (out), SROB10 (out), SROB11 (out), SROB12 (out), SROB13 (out), SROB14 (out), SROB15 (out), SROB16 (out), SROB17 (out), SUM0 (out), SUM1 (out), SUM2 (out), SUM3 (out), SUM4 (out), SUM5 (out), SUM6 (out), SUM7 (out), SUM8 (out), SUM9 (out), SUM10 (out), SUM11 (out), SUM12 (out), SUM13 (out), SUM14 (out), SUM15 (out), SUM16 (out), SUM17 (out), SUM18 (out), SUM19 (out), SUM20 (out), SUM21 (out), SUM22 (out), SUM23 (out), SUM24 (out), SUM25 (out), SUM26 (out), SUM27 (out), SUM28 (out), SUM29 (out), SUM30 (out), SUM31 (out), SUM32 (out), SUM33 (out), SUM34 (out), SUM35 (out), SUM36 (out)

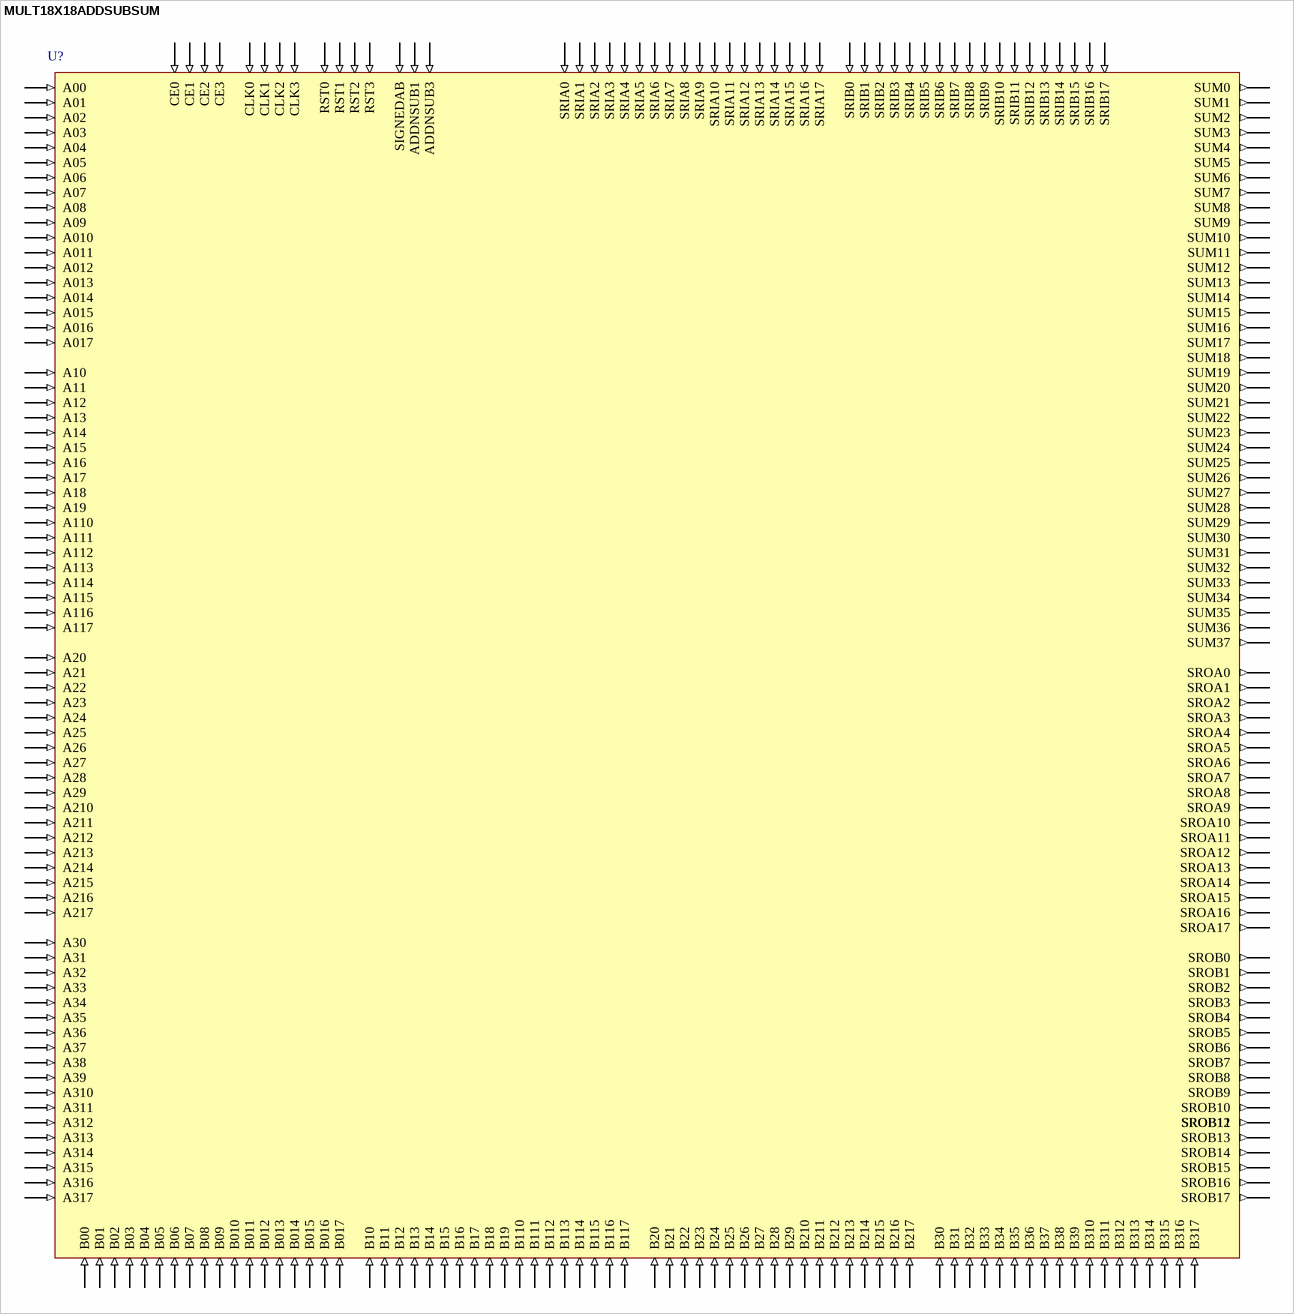
[diagram p6: symbol MULT18X18ADDSUBSUM]

## MULT18X18ADDSUBSUM
designator U?
ECP 18X18 DSP Adder/Subtractor/Sum; FPGAVendor: Lattice; Published: 15-Jun-2005; Publisher: Altium Limited; HelpURL: http://www.latticesemi.com/lit/docs/manuals/library.pdf
pins: A00 (in), A01 (in), A02 (in), A03 (in), A04 (in), A05 (in), A06 (in), A07 (in), A08 (in), A09 (in), A010 (in), A10 (in), A011 (in), A11 (in), A012 (in), A12 (in), A013 (in), A13 (in), A014 (in), A14 (in), A015 (in), A15 (in), A016 (in), A16 (in), A017 (in), A17 (in), A18 (in), A19 (in), A20 (in), A21 (in), A22 (in), A23 (in), A24 (in), A25 (in), A26 (in), A27 (in), A28 (in), A29 (in), A30 (in), A31 (in), A32 (in), A33 (in), A34 (in), A35 (in), A36 (in), A37 (in), A38 (in), A39 (in), A110 (in), A111 (in), A112 (in), A113 (in), A114 (in), A115 (in), A116 (in), A117 (in), A210 (in), A211 (in), A212 (in), A213 (in), A214 (in), A215 (in), A216 (in), A217 (in), A310 (in), A311 (in), A312 (in), A313 (in), A314 (in), A315 (in), A316 (in), A317 (in), ADDNSUB1 (in), ADDNSUB3 (in), B00 (in), B01 (in), B02 (in), B03 (in), B04 (in), B05 (in), B06 (in), B07 (in), B08 (in), B09 (in), B010 (in), B10 (in), B011 (in), B11 (in), B012 (in), B12 (in), B013 (in), B13 (in), B014 (in), B14 (in), B015 (in), B15 (in), B016 (in), B16 (in), B017 (in), B17 (in), B18 (in), B19 (in), B20 (in), B21 (in), B22 (in), B23 (in), B24 (in), B25 (in), B26 (in), B27 (in), B28 (in), B29 (in), B30 (in), B31 (in), B32 (in), B33 (in), B34 (in), B35 (in), B36 (in), B37 (in), B38 (in), B39 (in), B110 (in), B111 (in), B112 (in), B113 (in), B114 (in), B115 (in), B116 (in), B117 (in), B210 (in), B211 (in), B212 (in), B213 (in), B214 (in), B215 (in), B216 (in), B217 (in), B310 (in), B311 (in), B312 (in), B313 (in), B314 (in), B315 (in), B316 (in), B317 (in), CE0 (in), CE1 (in), CE2 (in), CE3 (in), CLK0 (in), CLK1 (in), CLK2 (in), CLK3 (in), RST0 (in), RST1 (in), RST2 (in), RST3 (in), SIGNEDAB (in), SRIA0 (in), SRIA1 (in), SRIA2 (in), SRIA3 (in), SRIA4 (in), SRIA5 (in), SRIA6 (in), SRIA7 (in), SRIA8 (in), SRIA9 (in), SRIA10 (in), SRIA11 (in), SRIA12 (in), SRIA13 (in), SRIA14 (in), SRIA15 (in), SRIA16 (in), SRIA17 (in), SRIB0 (in), SRIB1 (in), SRIB2 (in), SRIB3 (in), SRIB4 (in), SRIB5 (in), SRIB6 (in), SRIB7 (in), SRIB8 (in), SRIB9 (in), SRIB10 (in), SRIB11 (in), SRIB12 (in), SRIB13 (in), SRIB14 (in), SRIB15 (in), SRIB16 (in), SRIB17 (in), SROA0 (out), SROA1 (out), SROA2 (out), SROA3 (out), SROA4 (out), SROA5 (out), SROA6 (out), SROA7 (out), SROA8 (out), SROA9 (out), SROA10 (out), SROA11 (out), SROA12 (out), SROA13 (out), SROA14 (out), SROA15 (out), SROA16 (out), SROA17 (out), SROB0 (out), SROB1 (out), SROB2 (out), SROB3 (out), SROB4 (out), SROB5 (out), SROB6 (out), SROB7 (out), SROB8 (out), SROB9 (out), SROB10 (out), SROB11 (out), SROB12 (out), SROB13 (out), SROB14 (out), SROB15 (out), SROB16 (out), SROB17 (out), SUM0 (out), SUM1 (out), SUM2 (out), SUM3 (out), SUM4 (out), SUM5 (out), SUM6 (out), SUM7 (out), SUM8 (out), SUM9 (out), SUM10 (out), SUM11 (out), SUM12 (out), SUM13 (out), SUM14 (out), SUM15 (out), SUM16 (out), SUM17 (out), SUM18 (out), SUM19 (out), SUM20 (out), SUM21 (out), SUM22 (out), SUM23 (out), SUM24 (out), SUM25 (out), SUM26 (out), SUM27 (out), SUM28 (out), SUM29 (out), SUM30 (out), SUM31 (out), SUM32 (out), SUM33 (out), SUM34 (out), SUM35 (out), SUM36 (out), SUM37 (out)

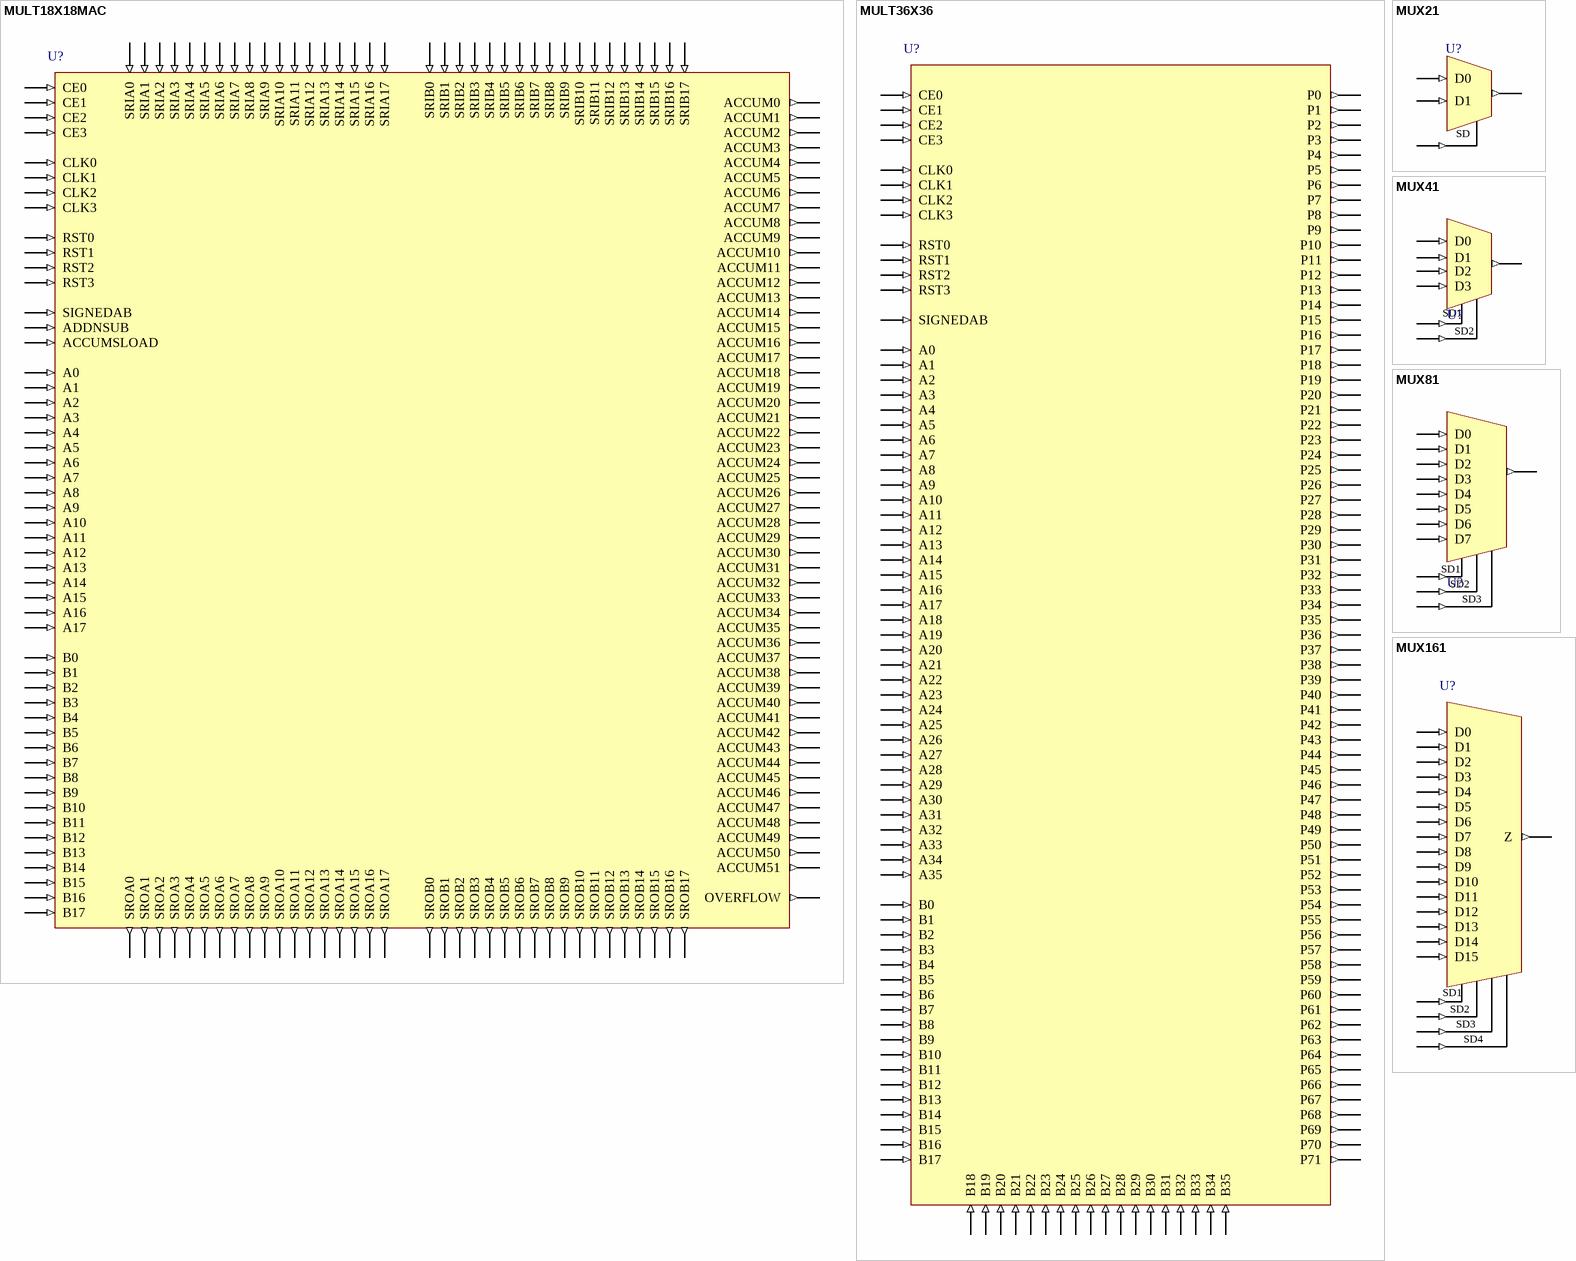
[diagram p7: symbols MULT18X18MAC to MUX161]

## MULT18X18MAC
designator U?
ECP 18X18 DSP MAC; FPGAVendor: Lattice; Published: 15-Jun-2005; Publisher: Altium Limited; HelpURL: http://www.latticesemi.com/lit/docs/manuals/library.pdf
pins: A0 (in), A1 (in), A2 (in), A3 (in), A4 (in), A5 (in), A6 (in), A7 (in), A8 (in), A9 (in), A10 (in), A11 (in), A12 (in), A13 (in), A14 (in), A15 (in), A16 (in), A17 (in), ACCUM0 (out), ACCUM1 (out), ACCUM2 (out), ACCUM3 (out), ACCUM4 (out), ACCUM5 (out), ACCUM6 (out), ACCUM7 (out), ACCUM8 (out), ACCUM9 (out), ACCUM10 (out), ACCUM11 (out), ACCUM12 (out), ACCUM13 (out), ACCUM14 (out), ACCUM15 (out), ACCUM16 (out), ACCUM17 (out), ACCUM18 (out), ACCUM19 (out), ACCUM20 (out), ACCUM21 (out), ACCUM22 (out), ACCUM23 (out), ACCUM24 (out), ACCUM25 (out), ACCUM26 (out), ACCUM27 (out), ACCUM28 (out), ACCUM29 (out), ACCUM30 (out), ACCUM31 (out), ACCUM32 (out), ACCUM33 (out), ACCUM34 (out), ACCUM35 (out), ACCUM36 (out), ACCUM37 (out), ACCUM38 (out), ACCUM39 (out), ACCUM40 (out), ACCUM41 (out), ACCUM42 (out), ACCUM43 (out), ACCUM44 (out), ACCUM45 (out), ACCUM46 (out), ACCUM47 (out), ACCUM48 (out), ACCUM49 (out), ACCUM50 (out), ACCUM51 (out), ACCUMSLOAD (in), ADDNSUB (in), B0 (in), B1 (in), B2 (in), B3 (in), B4 (in), B5 (in), B6 (in), B7 (in), B8 (in), B9 (in), B10 (in), B11 (in), B12 (in), B13 (in), B14 (in), B15 (in), B16 (in), B17 (in), CE0 (in), CE1 (in), CE2 (in), CE3 (in), CLK0 (in), CLK1 (in), CLK2 (in), CLK3 (in), OVERFLOW (out), RST0 (in), RST1 (in), RST2 (in), RST3 (in), SIGNEDAB (in), SRIA0 (in), SRIA1 (in), SRIA2 (in), SRIA3 (in), SRIA4 (in), SRIA5 (in), SRIA6 (in), SRIA7 (in), SRIA8 (in), SRIA9 (in), SRIA10 (in), SRIA11 (in), SRIA12 (in), SRIA13 (in), SRIA14 (in), SRIA15 (in), SRIA16 (in), SRIA17 (in), SRIB0 (in), SRIB1 (in), SRIB2 (in), SRIB3 (in), SRIB4 (in), SRIB5 (in), SRIB6 (in), SRIB7 (in), SRIB8 (in), SRIB9 (in), SRIB10 (in), SRIB11 (in), SRIB12 (in), SRIB13 (in), SRIB14 (in), SRIB15 (in), SRIB16 (in), SRIB17 (in), SROA0 (out), SROA1 (out), SROA2 (out), SROA3 (out), SROA4 (out), SROA5 (out), SROA6 (out), SROA7 (out), SROA8 (out), SROA9 (out), SROA10 (out), SROA11 (out), SROA12 (out), SROA13 (out), SROA14 (out), SROA15 (out), SROA16 (out), SROA17 (out), SROB0 (out), SROB1 (out), SROB2 (out), SROB3 (out), SROB4 (out), SROB5 (out), SROB6 (out), SROB7 (out), SROB8 (out), SROB9 (out), SROB10 (out), SROB11 (out), SROB12 (out), SROB13 (out), SROB14 (out), SROB15 (out), SROB16 (out), SROB17 (out)

## MULT36X36
designator U?
ECP 36X36 DSP Multiplier; FPGAVendor: Lattice; Published: 15-Jun-2005; Publisher: Altium Limited; HelpURL: http://www.latticesemi.com/lit/docs/manuals/library.pdf
pins: A0 (in), A1 (in), A2 (in), A3 (in), A4 (in), A5 (in), A6 (in), A7 (in), A8 (in), A9 (in), A10 (in), A11 (in), A12 (in), A13 (in), A14 (in), A15 (in), A16 (in), A17 (in), A18 (in), A19 (in), A20 (in), A21 (in), A22 (in), A23 (in), A24 (in), A25 (in), A26 (in), A27 (in), A28 (in), A29 (in), A30 (in), A31 (in), A32 (in), A33 (in), A34 (in), A35 (in), B0 (in), B1 (in), B2 (in), B3 (in), B4 (in), B5 (in), B6 (in), B7 (in), B8 (in), B9 (in), B10 (in), B11 (in), B12 (in), B13 (in), B14 (in), B15 (in), B16 (in), B17 (in), B18 (in), B19 (in), B20 (in), B21 (in), B22 (in), B23 (in), B24 (in), B25 (in), B26 (in), B27 (in), B28 (in), B29 (in), B30 (in), B31 (in), B32 (in), B33 (in), B34 (in), B35 (in), CE0 (in), CE1 (in), CE2 (in), CE3 (in), CLK0 (in), CLK1 (in), CLK2 (in), CLK3 (in), P0 (out), P1 (out), P2 (out), P3 (out), P4 (out), P5 (out), P6 (out), P7 (out), P8 (out), P9 (out), P10 (out), P11 (out), P12 (out), P13 (out), P14 (out), P15 (out), P16 (out), P17 (out), P18 (out), P19 (out), P20 (out), P21 (out), P22 (out), P23 (out), P24 (out), P25 (out), P26 (out), P27 (out), P28 (out), P29 (out), P30 (out), P31 (out), P32 (out), P33 (out), P34 (out), P35 (out), P36 (out), P37 (out), P38 (out), P39 (out), P40 (out), P41 (out), P42 (out), P43 (out), P44 (out), P45 (out), P46 (out), P47 (out), P48 (out), P49 (out), P50 (out), P51 (out), P52 (out), P53 (out), P54 (out), P55 (out), P56 (out), P57 (out), P58 (out), P59 (out), P60 (out), P61 (out), P62 (out), P63 (out), P64 (out), P65 (out), P66 (out), P67 (out), P68 (out), P69 (out), P70 (out), P71 (out), RST0 (in), RST1 (in), RST2 (in), RST3 (in), SIGNEDAB (in)

## MUX21
designator U?
2 to 1 Mux; FPGAVendor: Lattice; Published: 15-Jun-2005; Publisher: Altium Limited; HelpURL: http://www.latticesemi.com/lit/docs/manuals/library.pdf
pins: D0 (in), D1 (in), SD (in), Z (out)

## MUX41
designator U?
4 to 1 Mux; FPGAVendor: Lattice; Published: 15-Jun-2005; Publisher: Altium Limited; HelpURL: http://www.latticesemi.com/lit/docs/manuals/library.pdf
pins: D0 (in), D1 (in), D2 (in), D3 (in), SD1 (in), SD2 (in), Z (out)